# Altium schematic symbol library CHXXX.schlib: 353 symbols (part 4 of 5)
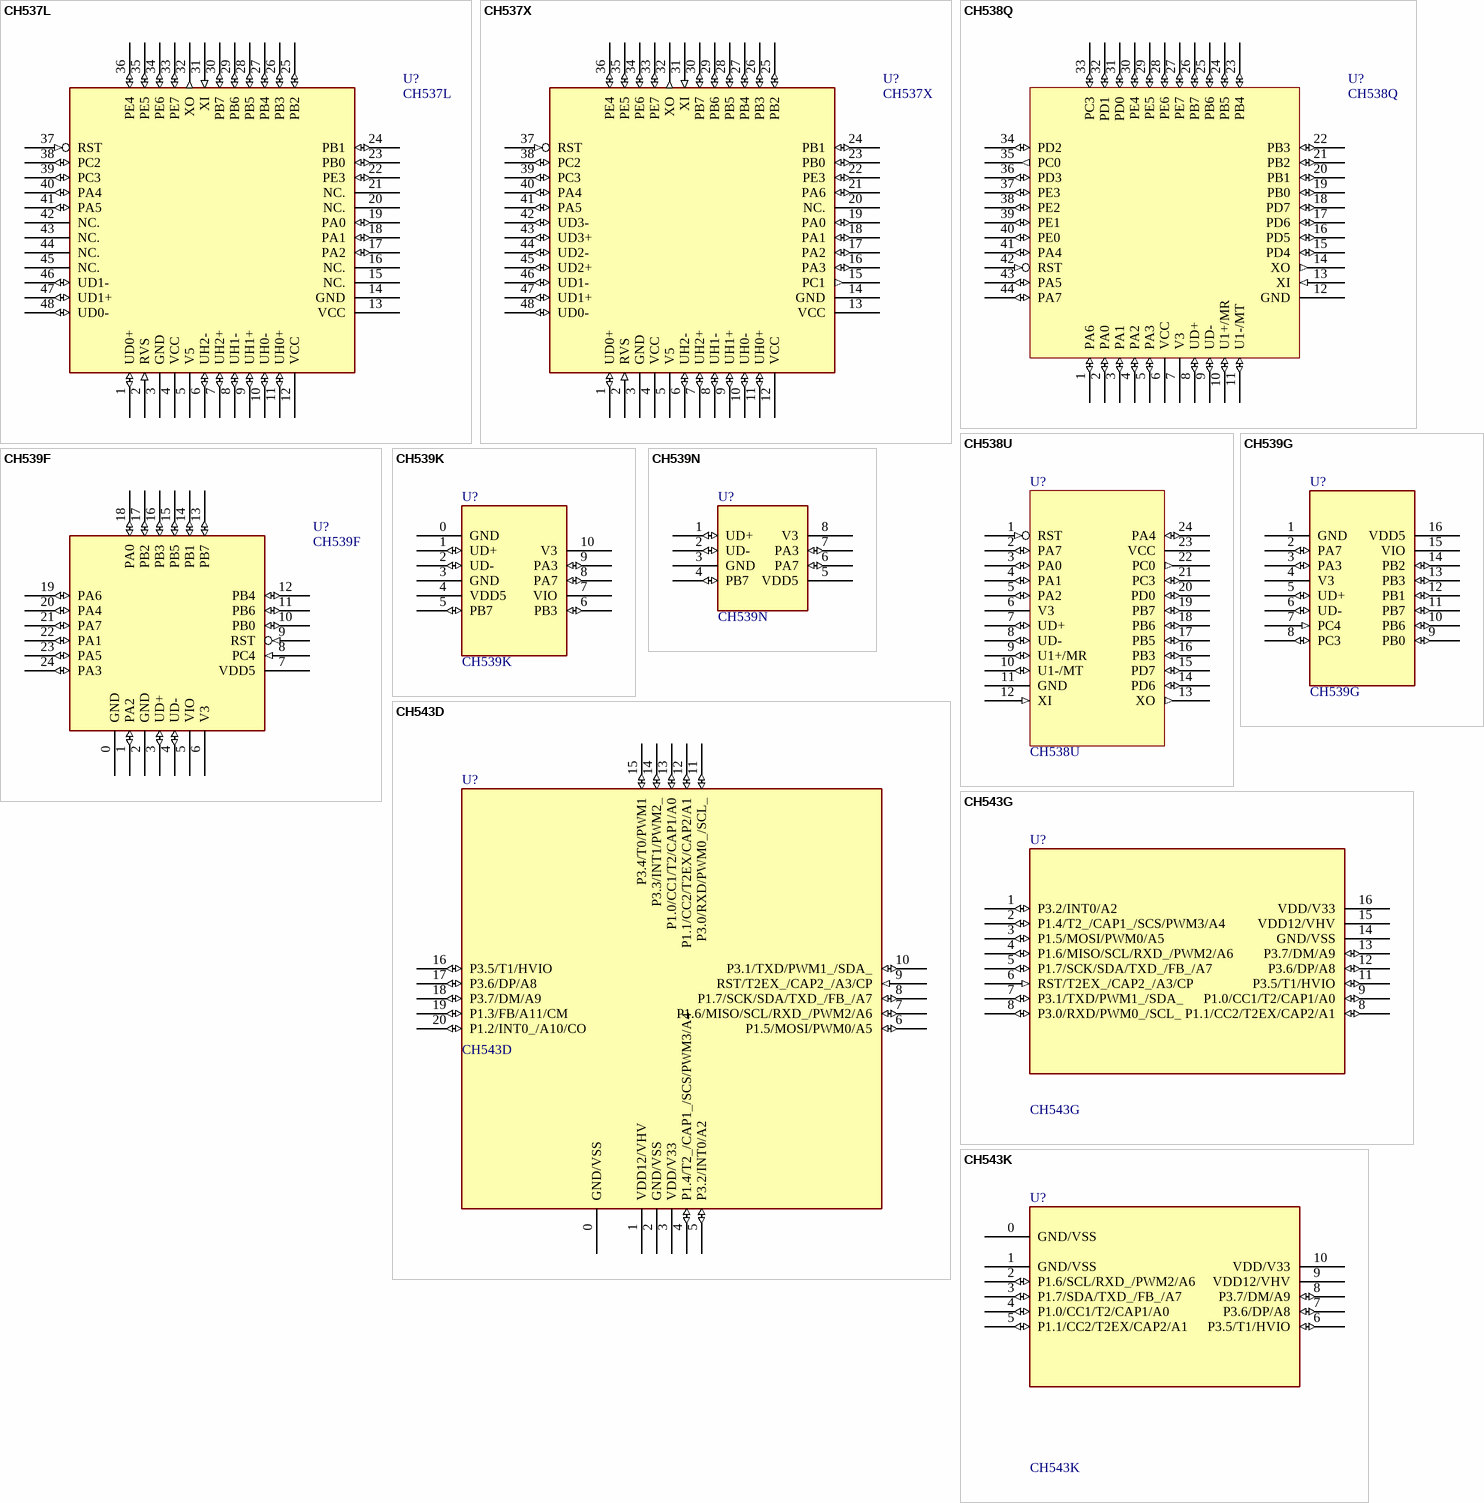
[diagram p44: symbols CH537L to CH543K]

## CH539N
designator U?
8 bit RISC MCU with USB host & device & UART
footprint SOP8
footprint DIP8
pins: 1 UD+ (io), 2 UD- (io), 3 GND (power), 4 PB7 (io), 5 VDD5 (power), 6 PA7 (io), 7 PA3 (io), 8 V3 (power)
2 alternate drawings of the same symbol

## CH543D
designator U?
8bit MCS51 MCU with USB & USB PD & type-C & ADC & UART & SPI & I2C & PWM
footprint QFN20_3x3
pins: 0 GND/VSS (power), 1 VDD12/VHV (power), 2 GND/VSS (power), 3 VDD/V33 (power), 4 P1.4/T2_/CAP1_/SCS/PWM3/A4 (io), 5 P3.2/INT0/A2 (io), 6 P1.5/MOSI/PWM0/A5 (io), 7 P1.6/MISO/SCL/RXD_/PWM2/A6 (io), 8 P1.7/SCK/SDA/TXD_/FB_/A7 (io), 9 RST/T2EX_/CAP2_/A3/CP (in), 10 P3.1/TXD/PWM1_/SDA_ (io), 11 P3.0/RXD/PWM0_/SCL_ (io), 12 P1.1/CC2/T2EX/CAP2/A1 (io), 13 P1.0/CC1/T2/CAP1/A0 (io), 14 P3.3/INT1/PWM2_ (io), 15 P3.4/T0/PWM1 (io), 16 P3.5/T1/HVIO (io), 17 P3.6/DP/A8 (io), 18 P3.7/DM/A9 (io), 19 P1.3/FB/A11/CM (io), 20 P1.2/INT0_/A10/CO (io)
2 alternate drawings of the same symbol

## CH543G
designator U?
8bit MCS51 MCU with USB & USB PD & type-C & ADC & UART & SPI & I2C & PWM
footprint SOP16 (Footprint not found)
footprint DIP16 (Footprint not found)
pins: 1 P3.2/INT0/A2 (io), 2 P1.4/T2_/CAP1_/SCS/PWM3/A4 (io), 3 P1.5/MOSI/PWM0/A5 (io), 4 P1.6/MISO/SCL/RXD_/PWM2/A6 (io), 5 P1.7/SCK/SDA/TXD_/FB_/A7 (io), 6 RST/T2EX_/CAP2_/A3/CP (in), 7 P3.1/TXD/PWM1_/SDA_ (io), 8 P1.1/CC2/T2EX/CAP2/A1 (io), 8 P3.0/RXD/PWM0_/SCL_ (io), 9 P1.0/CC1/T2/CAP1/A0 (io), 11 P3.5/T1/HVIO (io), 12 P3.6/DP/A8 (io), 13 P3.7/DM/A9 (io), 14 GND/VSS (power), 15 VDD12/VHV (power), 16 VDD/V33 (power)
2 alternate drawings of the same symbol

## CH543K
designator U?
8bit MCS51 MCU with USB & USB PD & type-C & ADC & UART & PWM
footprint ESSOP10 (Footprint not found)
pins: 0 GND/VSS (power), 1 GND/VSS (power), 2 P1.6/SCL/RXD_/PWM2/A6 (io), 3 P1.7/SDA/TXD_/FB_/A7 (io), 4 P1.0/CC1/T2/CAP1/A0 (io), 5 P1.1/CC2/T2EX/CAP2/A1 (io), 6 P3.5/T1/HVIO (io), 7 P3.6/DP/A8 (io), 8 P3.7/DM/A9 (io), 9 VDD12/VHV (power), 10 VDD/V33 (power)
2 alternate drawings of the same symbol

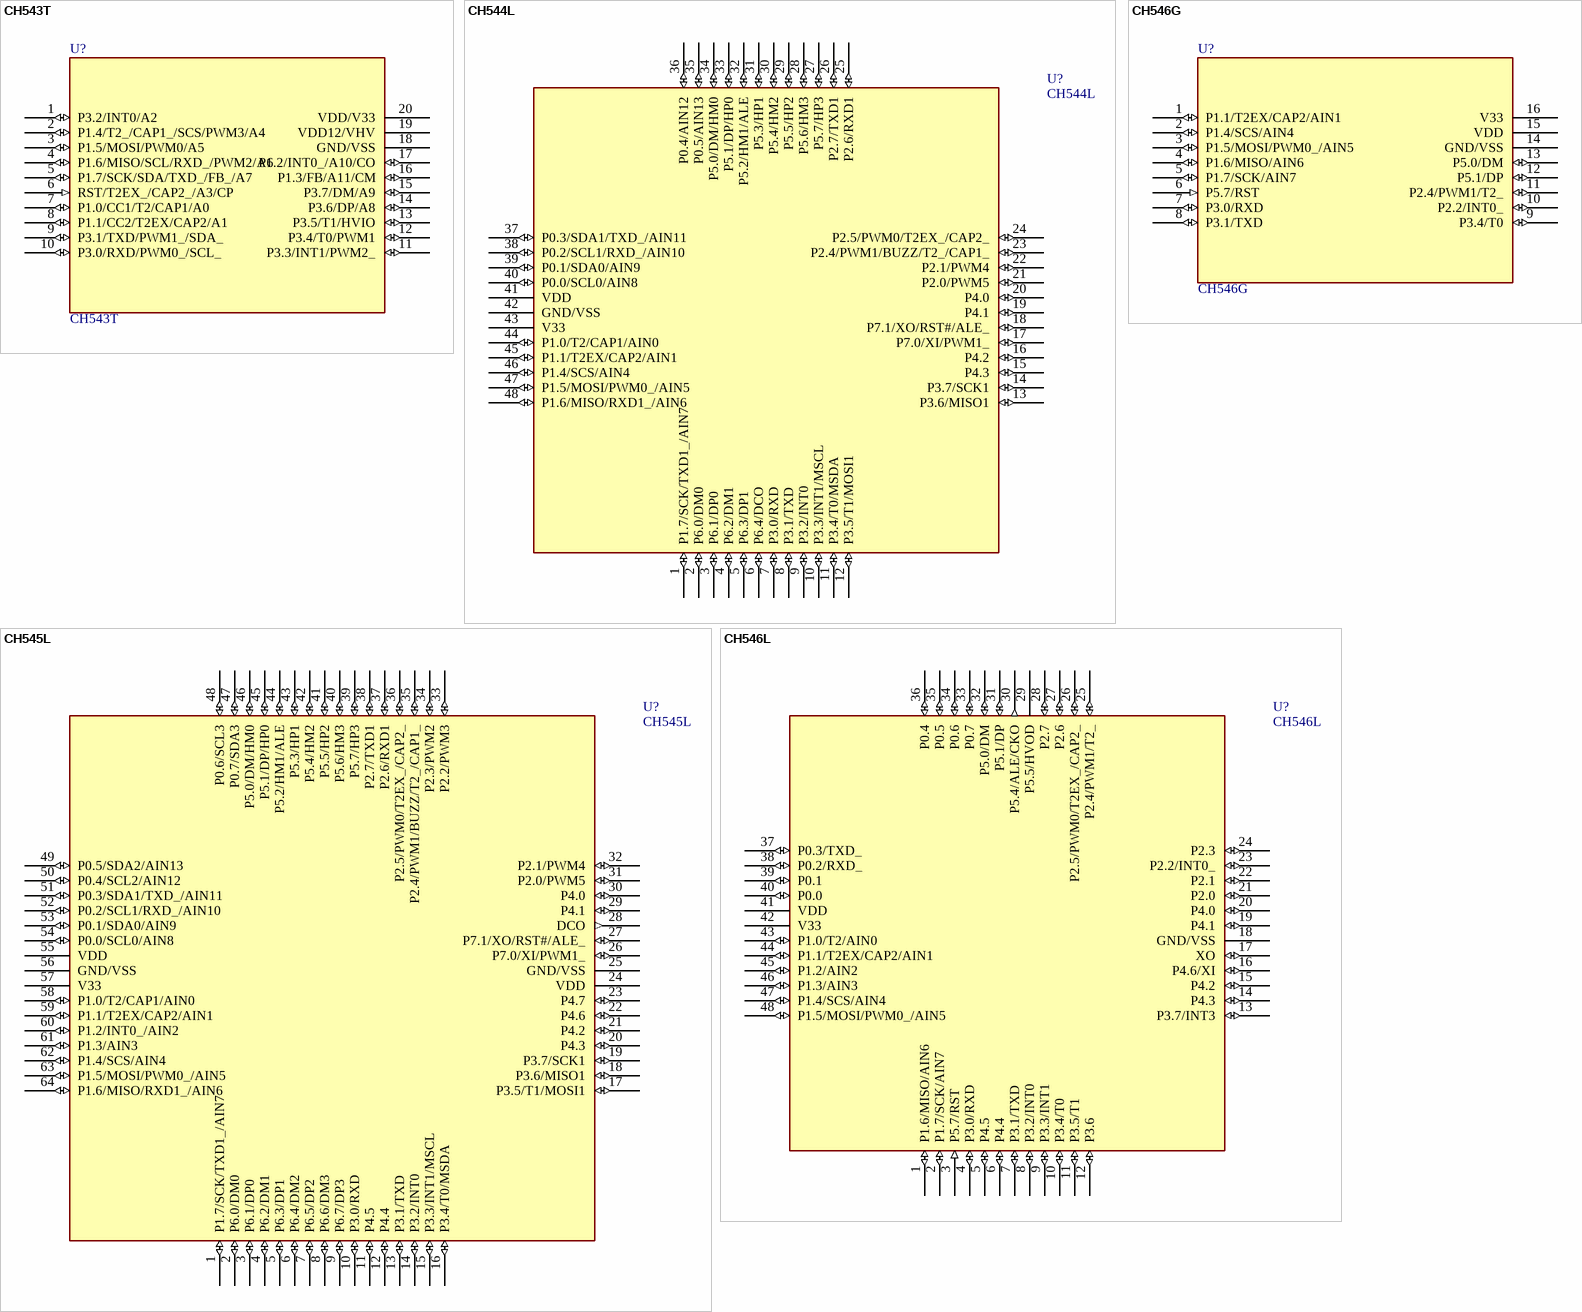
[diagram p25: symbols CH543T to CH546L]

## CH543T
designator U?
8bit MCS51 MCU with USB & USB PD & type-C & ADC & UART & SPI & I2C & PWM
footprint TSSOP20
footprint DIP20
pins: 1 P3.2/INT0/A2 (io), 2 P1.4/T2_/CAP1_/SCS/PWM3/A4 (io), 3 P1.5/MOSI/PWM0/A5 (io), 4 P1.6/MISO/SCL/RXD_/PWM2/A6 (io), 5 P1.7/SCK/SDA/TXD_/FB_/A7 (io), 6 RST/T2EX_/CAP2_/A3/CP (in), 7 P1.0/CC1/T2/CAP1/A0 (io), 8 P1.1/CC2/T2EX/CAP2/A1 (io), 9 P3.1/TXD/PWM1_/SDA_ (io), 10 P3.0/RXD/PWM0_/SCL_ (io), 11 P3.3/INT1/PWM2_ (io), 12 P3.4/T0/PWM1 (io), 13 P3.5/T1/HVIO (io), 14 P3.6/DP/A8 (io), 15 P3.7/DM/A9 (io), 16 P1.3/FB/A11/CM (io), 17 P1.2/INT0_/A10/CO (io), 18 GND/VSS (power), 19 VDD12/VHV (power), 20 VDD/V33 (power)
2 alternate drawings of the same symbol

## CH544L
designator U?
8bit MCS51 MCU with ADC & USB host 4 ports & KVM2 device & dual UART & SPI & dual I2C
footprint LQFP48
pins: 1 P1.7/SCK/TXD1_/AIN7 (io), 2 P6.0/DM0 (io), 3 P6.1/DP0 (io), 4 P6.2/DM1 (io), 5 P6.3/DP1 (io), 6 P6.4/DCO (io), 7 P3.0/RXD (io), 8 P3.1/TXD (io), 9 P3.2/INT0 (io), 10 P3.3/INT1/MSCL (io), 11 P3.4/T0/MSDA (io), 12 P3.5/T1/MOSI1 (io), 13 P3.6/MISO1 (io), 14 P3.7/SCK1 (io), 15 P4.3 (io), 16 P4.2 (io), 17 P7.0/XI/PWM1_ (io), 18 P7.1/XO/RST#/ALE_ (io), 19 P4.1 (io), 20 P4.0 (io), 21 P2.0/PWM5 (io), 22 P2.1/PWM4 (io), 23 P2.4/PWM1/BUZZ/T2_/CAP1_ (io), 24 P2.5/PWM0/T2EX_/CAP2_ (io), 25 P2.6/RXD1 (io), 26 P2.7/TXD1 (io), 27 P5.7/HP3 (io), 28 P5.6/HM3 (io), 29 P5.5/HP2 (io), 30 P5.4/HM2 (io), 31 P5.3/HP1 (io), 32 P5.2/HM1/ALE (io), 33 P5.1/DP/HP0 (io), 34 P5.0/DM/HM0 (io), 35 P0.5/AIN13 (io), 36 P0.4/AIN12 (io), 37 P0.3/SDA1/TXD_/AIN11 (io), 38 P0.2/SCL1/RXD_/AIN10 (io), 39 P0.1/SDA0/AIN9 (io), 40 P0.0/SCL0/AIN8 (io), 41 VDD (power), 42 GND/VSS (power), 43 V33 (power), 44 P1.0/T2/CAP1/AIN0 (io), 45 P1.1/T2EX/CAP2/AIN1 (io), 46 P1.4/SCS/AIN4 (io), 47 P1.5/MOSI/PWM0_/AIN5 (io), 48 P1.6/MISO/RXD1_/AIN6 (io)

## CH545L
designator U?
8bit MCS51 MCU with ADC & USB host 4 ports & KVM4 device & dual UART & SPI & quad I2C
footprint LQFP64
pins: 1 P1.7/SCK/TXD1_/AIN7 (io), 2 P6.0/DM0 (io), 3 P6.1/DP0 (io), 4 P6.2/DM1 (io), 5 P6.3/DP1 (io), 6 P6.4/DM2 (io), 7 P6.5/DP2 (io), 8 P6.6/DM3 (io), 9 P6.7/DP3 (io), 10 P3.0/RXD (io), 11 P4.5 (io), 12 P4.4 (io), 13 P3.1/TXD (io), 14 P3.2/INT0 (io), 15 P3.3/INT1/MSCL (io), 16 P3.4/T0/MSDA (io), 17 P3.5/T1/MOSI1 (io), 18 P3.6/MISO1 (io), 19 P3.7/SCK1 (io), 20 P4.3 (io), 21 P4.2 (io), 22 P4.6 (io), 23 P4.7 (io), 24 VDD (power), 25 GND/VSS (power), 26 P7.0/XI/PWM1_ (io), 27 P7.1/XO/RST#/ALE_ (io), 28 DCO (out), 29 P4.1 (io), 30 P4.0 (io), 31 P2.0/PWM5 (io), 32 P2.1/PWM4 (io), 33 P2.2/PWM3 (io), 34 P2.3/PWM2 (io), 35 P2.4/PWM1/BUZZ/T2_/CAP1_ (io), 36 P2.5/PWM0/T2EX_/CAP2_ (io), 37 P2.6/RXD1 (io), 38 P2.7/TXD1 (io), 39 P5.7/HP3 (io), 40 P5.6/HM3 (io), 41 P5.5/HP2 (io), 42 P5.4/HM2 (io), 43 P5.3/HP1 (io), 44 P5.2/HM1/ALE (io), 45 P5.1/DP/HP0 (io), 46 P5.0/DM/HM0 (io), 47 P0.7/SDA3 (io), 48 P0.6/SCL3 (io), 49 P0.5/SDA2/AIN13 (io), 50 P0.4/SCL2/AIN12 (io), 51 P0.3/SDA1/TXD_/AIN11 (io), 52 P0.2/SCL1/RXD_/AIN10 (io), 53 P0.1/SDA0/AIN9 (io), 54 P0.0/SCL0/AIN8 (io), 55 VDD (power), 56 GND/VSS (power), 57 V33 (power), 58 P1.0/T2/CAP1/AIN0 (io), 59 P1.1/T2EX/CAP2/AIN1 (io), 60 P1.2/INT0_/AIN2 (io), 61 P1.3/AIN3 (io), 62 P1.4/SCS/AIN4 (io), 63 P1.5/MOSI/PWM0_/AIN5 (io), 64 P1.6/MISO/RXD1_/AIN6 (io)

## CH546G
designator U?
8bit MCS51 MCU with ADC & USB device & UART & SPI
footprint SOP16
footprint DIP16
pins: 1 P1.1/T2EX/CAP2/AIN1 (io), 2 P1.4/SCS/AIN4 (io), 3 P1.5/MOSI/PWM0_/AIN5 (io), 4 P1.6/MISO/AIN6 (io), 5 P1.7/SCK/AIN7 (io), 6 P5.7/RST (in), 7 P3.0/RXD (io), 8 P3.1/TXD (io), 9 P3.4/T0 (io), 10 P2.2/INT0_ (io), 11 P2.4/PWM1/T2_ (io), 12 P5.1/DP (io), 13 P5.0/DM (io), 14 GND/VSS (power), 15 VDD (power), 16 V33 (power)

## CH546L
designator U?
8bit MCS51 MCU with ADC & USB device & UART & SPI
footprint LQFP48
pins: 1 P1.6/MISO/AIN6 (io), 2 P1.7/SCK/AIN7 (io), 3 P5.7/RST (in), 4 P3.0/RXD (io), 5 P4.5 (io), 6 P4.4 (io), 7 P3.1/TXD (io), 8 P3.2/INT0 (io), 9 P3.3/INT1 (io), 10 P3.4/T0 (io), 11 P3.5/T1 (io), 12 P3.6 (io), 13 P3.7/INT3 (io), 14 P4.3 (io), 15 P4.2 (io), 16 P4.6/XI (io), 17 XO (io), 18 GND/VSS (power), 19 P4.1 (io), 20 P4.0 (io), 21 P2.0 (io), 22 P2.1 (io), 23 P2.2/INT0_ (io), 24 P2.3 (io), 25 P2.4/PWM1/T2_ (io), 26 P2.5/PWM0/T2EX_/CAP2_ (io), 27 P2.6 (io), 28 P2.7 (io), 29 P5.5/HVOD (oc), 30 P5.4/ALE/CKO (out), 31 P5.1/DP (io), 32 P5.0/DM (io), 33 P0.7 (io), 34 P0.6 (io), 35 P0.5 (io), 36 P0.4 (io), 37 P0.3/TXD_ (io), 38 P0.2/RXD_ (io), 39 P0.1 (io), 40 P0.0 (io), 41 VDD (power), 42 V33 (power), 43 P1.0/T2/AIN0 (io), 44 P1.1/T2EX/CAP2/AIN1 (io), 45 P1.2/AIN2 (io), 46 P1.3/AIN3 (io), 47 P1.4/SCS/AIN4 (io), 48 P1.5/MOSI/PWM0_/AIN5 (io)

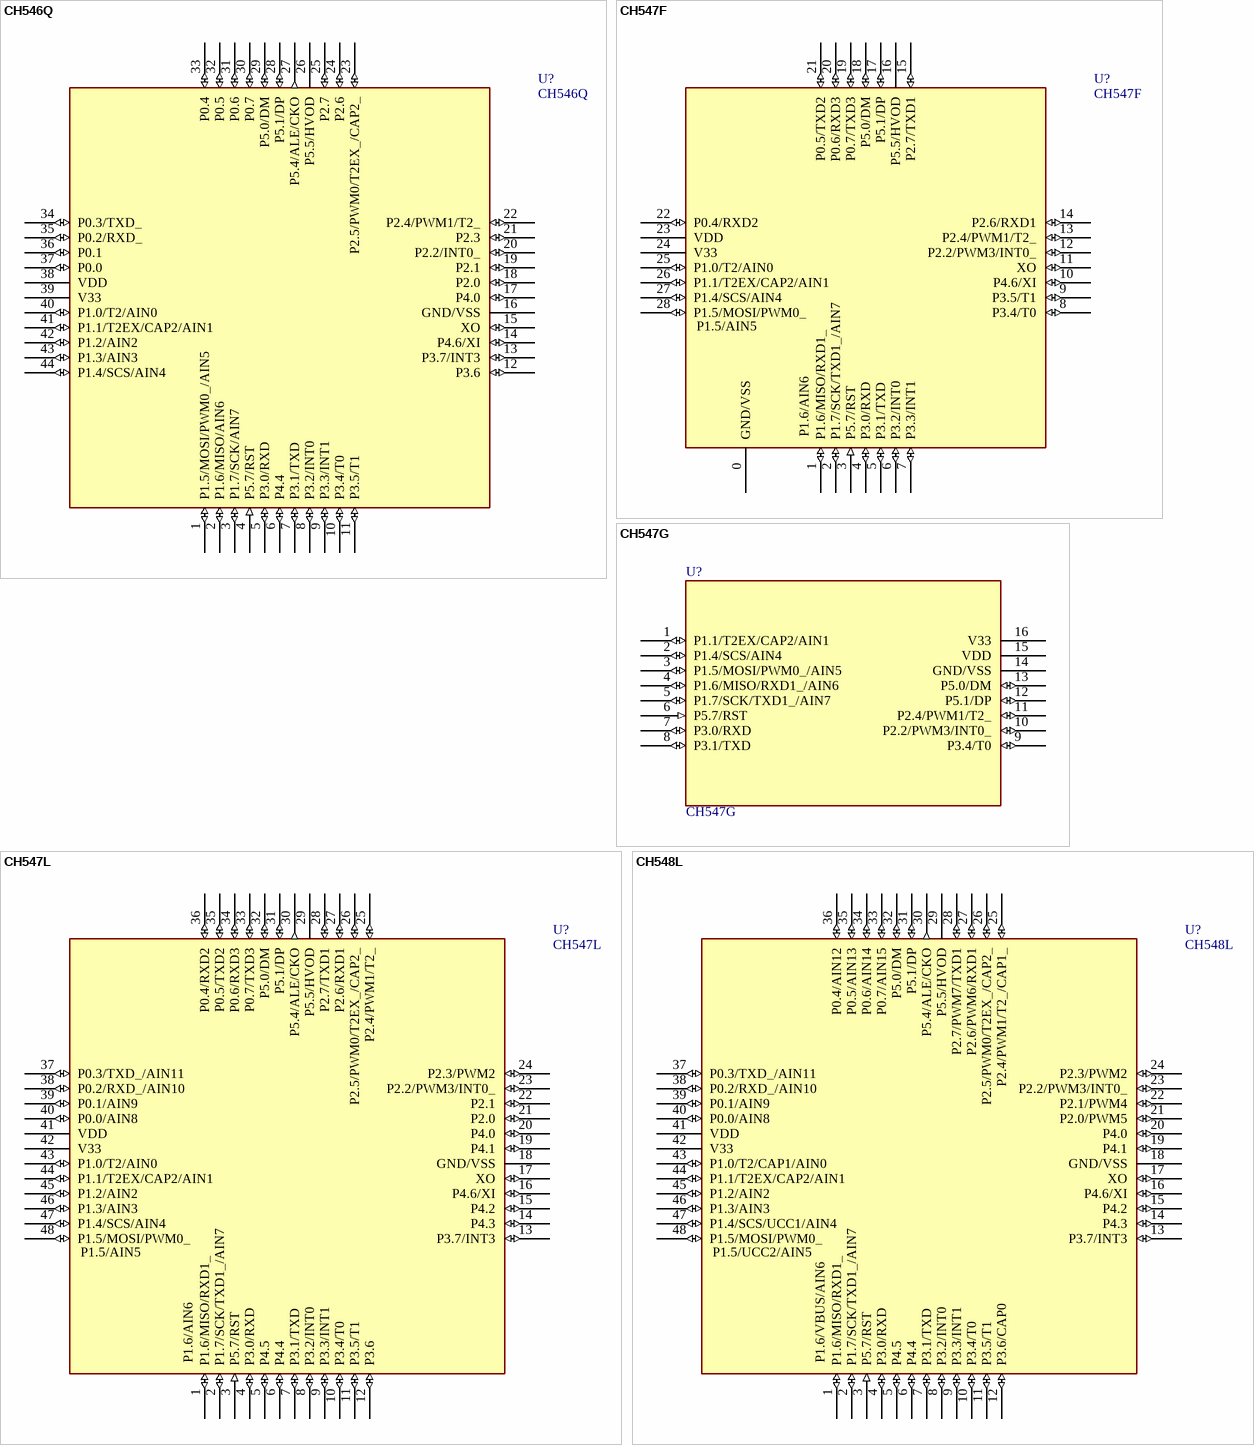
[diagram p26: symbols CH546Q to CH548L]

## CH546Q
designator U?
8bit MCS51 MCU with ADC & USB device & UART & SPI
footprint LQFP44
pins: 1 P1.5/MOSI/PWM0_/AIN5 (io), 2 P1.6/MISO/AIN6 (io), 3 P1.7/SCK/AIN7 (io), 4 P5.7/RST (in), 5 P3.0/RXD (io), 6 P4.4 (io), 7 P3.1/TXD (io), 8 P3.2/INT0 (io), 9 P3.3/INT1 (io), 10 P3.4/T0 (io), 11 P3.5/T1 (io), 12 P3.6 (io), 13 P3.7/INT3 (io), 14 P4.6/XI (io), 15 XO (io), 16 GND/VSS (power), 17 P4.0 (io), 18 P2.0 (io), 19 P2.1 (io), 20 P2.2/INT0_ (io), 21 P2.3 (io), 22 P2.4/PWM1/T2_ (io), 23 P2.5/PWM0/T2EX_/CAP2_ (io), 24 P2.6 (io), 25 P2.7 (io), 26 P5.5/HVOD (oc), 27 P5.4/ALE/CKO (out), 28 P5.1/DP (io), 29 P5.0/DM (io), 30 P0.7 (io), 31 P0.6 (io), 32 P0.5 (io), 33 P0.4 (io), 34 P0.3/TXD_ (io), 35 P0.2/RXD_ (io), 36 P0.1 (io), 37 P0.0 (io), 38 VDD (power), 39 V33 (power), 40 P1.0/T2/AIN0 (io), 41 P1.1/T2EX/CAP2/AIN1 (io), 42 P1.2/AIN2 (io), 43 P1.3/AIN3 (io), 44 P1.4/SCS/AIN4 (io)

## CH547F
designator U?
8bit MCS51 MCU with ADC & USB device & quad UART & SPI
footprint QFN28_4X4
pins: 0 GND/VSS (power), 1 P1.6/MISO/RXD1_ (io), 2 P1.7/SCK/TXD1_/AIN7 (io), 3 P5.7/RST (in), 4 P3.0/RXD (io), 5 P3.1/TXD (io), 6 P3.2/INT0 (io), 7 P3.3/INT1 (io), 8 P3.4/T0 (io), 9 P3.5/T1 (io), 10 P4.6/XI (io), 11 XO (io), 12 P2.2/PWM3/INT0_ (io), 13 P2.4/PWM1/T2_ (io), 14 P2.6/RXD1 (io), 15 P2.7/TXD1 (io), 16 P5.5/HVOD (oc), 17 P5.1/DP (io), 18 P5.0/DM (io), 19 P0.7/TXD3 (io), 20 P0.6/RXD3 (io), 21 P0.5/TXD2 (io), 22 P0.4/RXD2 (io), 23 VDD (power), 24 V33 (power), 25 P1.0/T2/AIN0 (io), 26 P1.1/T2EX/CAP2/AIN1 (io), 27 P1.4/SCS/AIN4 (io), 28 P1.5/MOSI/PWM0_ (io)
text: P1.5/AIN5; P1.6/AIN6

## CH547G
designator U?
8bit MCS51 MCU with ADC & USB device & dual UART & SPI
footprint SOP16
footprint DIP16
pins: 1 P1.1/T2EX/CAP2/AIN1 (io), 2 P1.4/SCS/AIN4 (io), 3 P1.5/MOSI/PWM0_/AIN5 (io), 4 P1.6/MISO/RXD1_/AIN6 (io), 5 P1.7/SCK/TXD1_/AIN7 (io), 6 P5.7/RST (in), 7 P3.0/RXD (io), 8 P3.1/TXD (io), 9 P3.4/T0 (io), 10 P2.2/PWM3/INT0_ (io), 11 P2.4/PWM1/T2_ (io), 12 P5.1/DP (io), 13 P5.0/DM (io), 14 GND/VSS (power), 15 VDD (power), 16 V33 (power)

## CH547L
designator U?
8bit MCS51 MCU with ADC & USB device & quad UART & SPI
footprint LQFP48
pins: 1 P1.6/MISO/RXD1_ (io), 2 P1.7/SCK/TXD1_/AIN7 (io), 3 P5.7/RST (in), 4 P3.0/RXD (io), 5 P4.5 (io), 6 P4.4 (io), 7 P3.1/TXD (io), 8 P3.2/INT0 (io), 9 P3.3/INT1 (io), 10 P3.4/T0 (io), 11 P3.5/T1 (io), 12 P3.6 (io), 13 P3.7/INT3 (io), 14 P4.3 (io), 15 P4.2 (io), 16 P4.6/XI (io), 17 XO (io), 18 GND/VSS (power), 19 P4.1 (io), 20 P4.0 (io), 21 P2.0 (io), 22 P2.1 (io), 23 P2.2/PWM3/INT0_ (io), 24 P2.3/PWM2 (io), 25 P2.4/PWM1/T2_ (io), 26 P2.5/PWM0/T2EX_/CAP2_ (io), 27 P2.6/RXD1 (io), 28 P2.7/TXD1 (io), 29 P5.5/HVOD (oc), 30 P5.4/ALE/CKO (out), 31 P5.1/DP (io), 32 P5.0/DM (io), 33 P0.7/TXD3 (io), 34 P0.6/RXD3 (io), 35 P0.5/TXD2 (io), 36 P0.4/RXD2 (io), 37 P0.3/TXD_/AIN11 (io), 38 P0.2/RXD_/AIN10 (io), 39 P0.1/AIN9 (io), 40 P0.0/AIN8 (io), 41 VDD (power), 42 V33 (power), 43 P1.0/T2/AIN0 (io), 44 P1.1/T2EX/CAP2/AIN1 (io), 45 P1.2/AIN2 (io), 46 P1.3/AIN3 (io), 47 P1.4/SCS/AIN4 (io), 48 P1.5/MOSI/PWM0_ (io)
text: P1.5/AIN5; P1.6/AIN6

## CH548L
designator U?
8bit MCS51 MCU with ADC & USB type-C host & device & double UART & SPI
footprint LQFP48
pins: 1 P1.6/MISO/RXD1_ (io), 2 P1.7/SCK/TXD1_/AIN7 (io), 3 P5.7/RST (in), 4 P3.0/RXD (io), 5 P4.5 (io), 6 P4.4 (io), 7 P3.1/TXD (io), 8 P3.2/INT0 (io), 9 P3.3/INT1 (io), 10 P3.4/T0 (io), 11 P3.5/T1 (io), 12 P3.6/CAP0 (io), 13 P3.7/INT3 (io), 14 P4.3 (io), 15 P4.2 (io), 16 P4.6/XI (io), 17 XO (io), 18 GND/VSS (power), 19 P4.1 (io), 20 P4.0 (io), 21 P2.0/PWM5 (io), 22 P2.1/PWM4 (io), 23 P2.2/PWM3/INT0_ (io), 24 P2.3/PWM2 (io), 25 P2.4/PWM1/T2_/CAP1_ (io), 26 P2.5/PWM0/T2EX_/CAP2_ (io), 27 P2.6/PWM6/RXD1 (io), 28 P2.7/PWM7/TXD1 (io), 29 P5.5/HVOD (oc), 30 P5.4/ALE/CKO (out), 31 P5.1/DP (io), 32 P5.0/DM (io), 33 P0.7/AIN15 (io), 34 P0.6/AIN14 (io), 35 P0.5/AIN13 (io), 36 P0.4/AIN12 (io), 37 P0.3/TXD_/AIN11 (io), 38 P0.2/RXD_/AIN10 (io), 39 P0.1/AIN9 (io), 40 P0.0/AIN8 (io), 41 VDD (power), 42 V33 (power), 43 P1.0/T2/CAP1/AIN0 (io), 44 P1.1/T2EX/CAP2/AIN1 (io), 45 P1.2/AIN2 (io), 46 P1.3/AIN3 (io), 47 P1.4/SCS/UCC1/AIN4 (io), 48 P1.5/MOSI/PWM0_ (io)
text: P1.5/UCC2/AIN5; P1.6/VBUS/AIN6

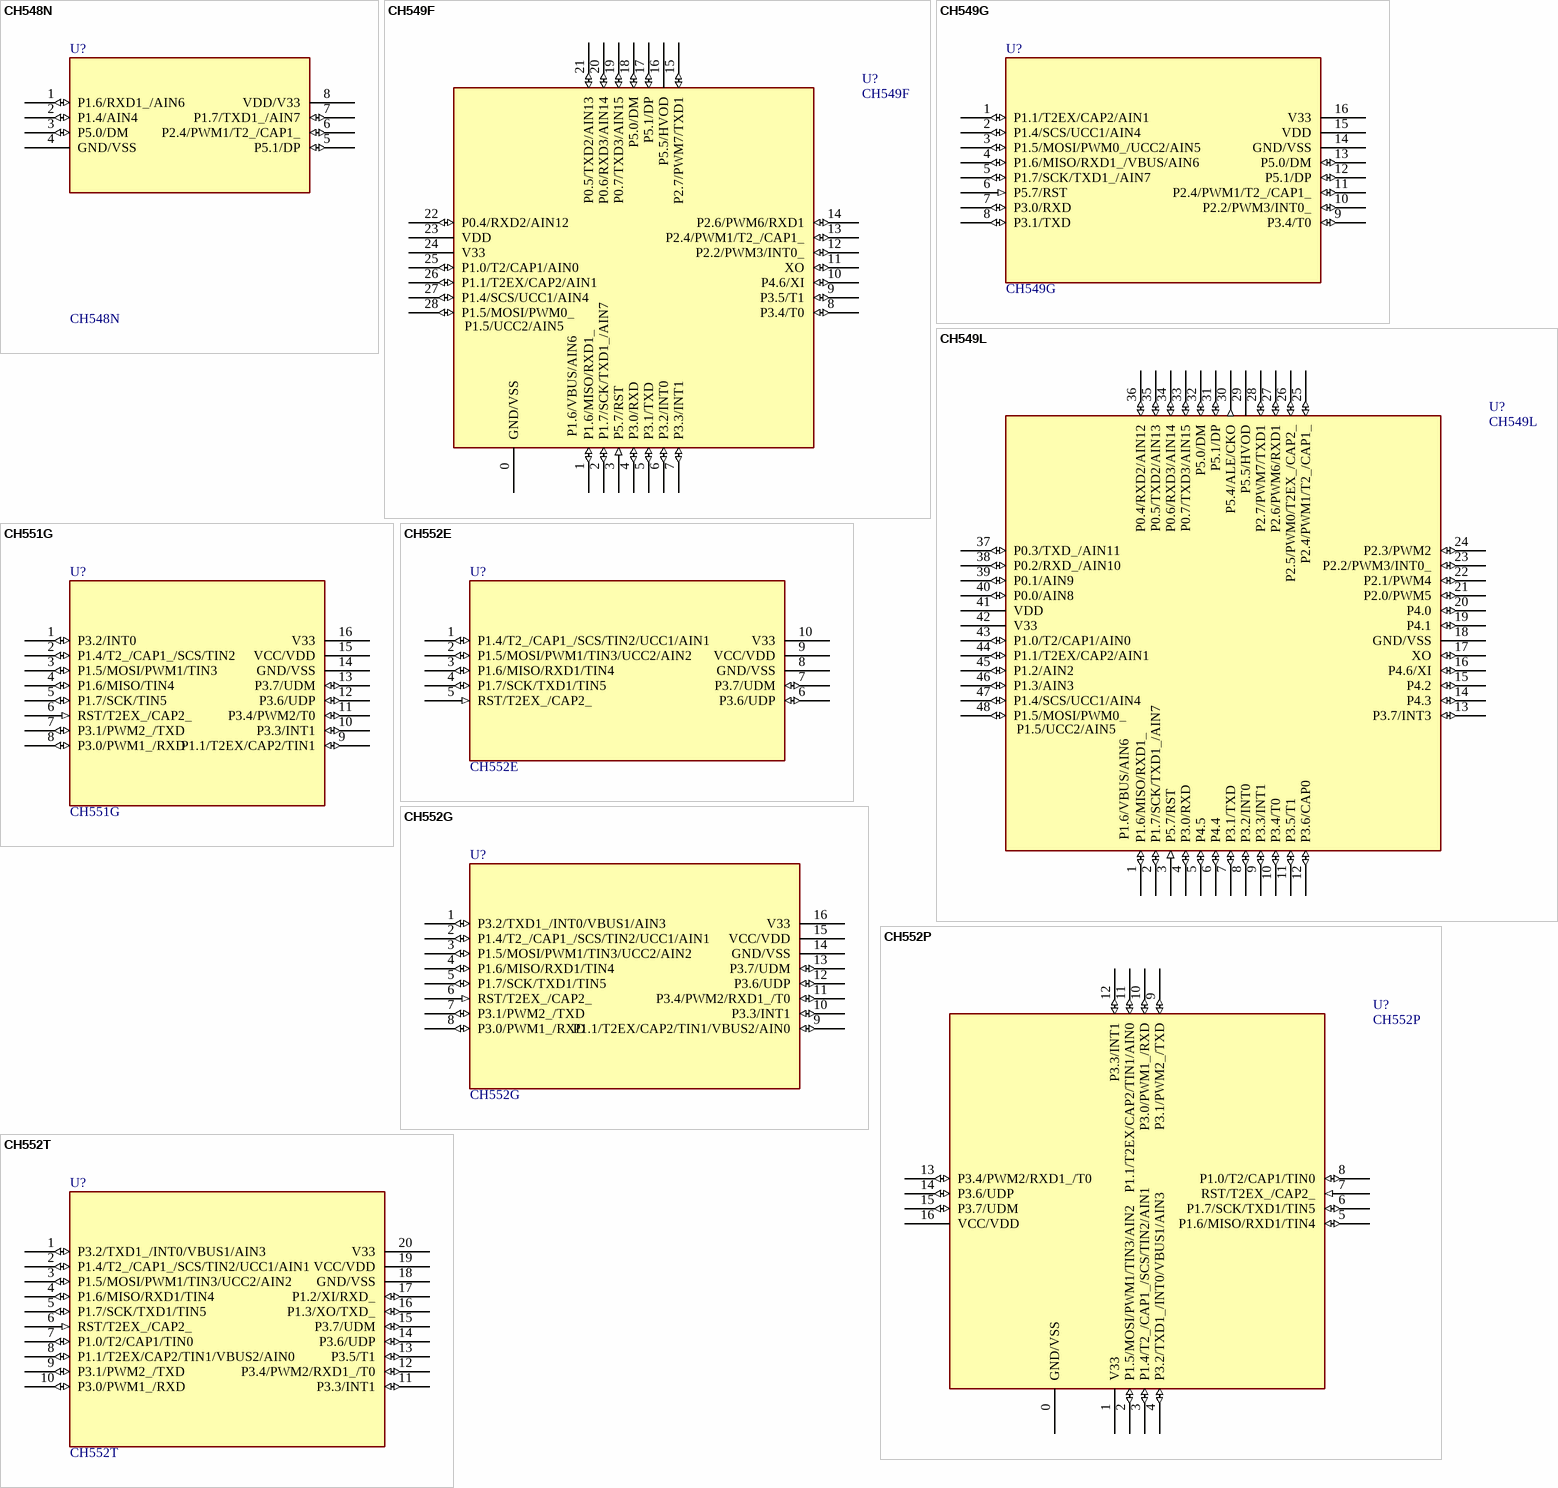
[diagram p27: symbols CH548N to CH552T]

## CH548N
designator U?
8bit MCS51 MCU with ADC & USB host & device & UART
footprint SOP8 (Footprint not found)
pins: 1 P1.6/RXD1_/AIN6 (io), 2 P1.4/AIN4 (io), 3 P5.0/DM (io), 4 GND/VSS (power), 5 P5.1/DP (io), 6 P2.4/PWM1/T2_/CAP1_ (io), 7 P1.7/TXD1_/AIN7 (io), 8 VDD/V33 (power)
2 alternate drawings of the same symbol

## CH549F
designator U?
8bit MCS51 MCU with ADC & USB type-C host & device & quad UART & SPI
footprint QFN28_4X4
pins: 0 GND/VSS (power), 1 P1.6/MISO/RXD1_ (io), 2 P1.7/SCK/TXD1_/AIN7 (io), 3 P5.7/RST (in), 4 P3.0/RXD (io), 5 P3.1/TXD (io), 6 P3.2/INT0 (io), 7 P3.3/INT1 (io), 8 P3.4/T0 (io), 9 P3.5/T1 (io), 10 P4.6/XI (io), 11 XO (io), 12 P2.2/PWM3/INT0_ (io), 13 P2.4/PWM1/T2_/CAP1_ (io), 14 P2.6/PWM6/RXD1 (io), 15 P2.7/PWM7/TXD1 (io), 16 P5.5/HVOD (oc), 17 P5.1/DP (io), 18 P5.0/DM (io), 19 P0.7/TXD3/AIN15 (io), 20 P0.6/RXD3/AIN14 (io), 21 P0.5/TXD2/AIN13 (io), 22 P0.4/RXD2/AIN12 (io), 23 VDD (power), 24 V33 (power), 25 P1.0/T2/CAP1/AIN0 (io), 26 P1.1/T2EX/CAP2/AIN1 (io), 27 P1.4/SCS/UCC1/AIN4 (io), 28 P1.5/MOSI/PWM0_ (io)
text: P1.5/UCC2/AIN5; P1.6/VBUS/AIN6

## CH549G
designator U?
8bit MCS51 MCU with ADC & USB type-C host & device & dual UART & SPI
footprint SOP16
footprint DIP16
pins: 1 P1.1/T2EX/CAP2/AIN1 (io), 2 P1.4/SCS/UCC1/AIN4 (io), 3 P1.5/MOSI/PWM0_/UCC2/AIN5 (io), 4 P1.6/MISO/RXD1_/VBUS/AIN6 (io), 5 P1.7/SCK/TXD1_/AIN7 (io), 6 P5.7/RST (in), 7 P3.0/RXD (io), 8 P3.1/TXD (io), 9 P3.4/T0 (io), 10 P2.2/PWM3/INT0_ (io), 11 P2.4/PWM1/T2_/CAP1_ (io), 12 P5.1/DP (io), 13 P5.0/DM (io), 14 GND/VSS (power), 15 VDD (power), 16 V33 (power)

## CH549L
designator U?
8bit MCS51 MCU with ADC & USB type-C host & device & quad UART & SPI
footprint LQFP48
pins: 1 P1.6/MISO/RXD1_ (io), 2 P1.7/SCK/TXD1_/AIN7 (io), 3 P5.7/RST (in), 4 P3.0/RXD (io), 5 P4.5 (io), 6 P4.4 (io), 7 P3.1/TXD (io), 8 P3.2/INT0 (io), 9 P3.3/INT1 (io), 10 P3.4/T0 (io), 11 P3.5/T1 (io), 12 P3.6/CAP0 (io), 13 P3.7/INT3 (io), 14 P4.3 (io), 15 P4.2 (io), 16 P4.6/XI (io), 17 XO (io), 18 GND/VSS (power), 19 P4.1 (io), 20 P4.0 (io), 21 P2.0/PWM5 (io), 22 P2.1/PWM4 (io), 23 P2.2/PWM3/INT0_ (io), 24 P2.3/PWM2 (io), 25 P2.4/PWM1/T2_/CAP1_ (io), 26 P2.5/PWM0/T2EX_/CAP2_ (io), 27 P2.6/PWM6/RXD1 (io), 28 P2.7/PWM7/TXD1 (io), 29 P5.5/HVOD (oc), 30 P5.4/ALE/CKO (out), 31 P5.1/DP (io), 32 P5.0/DM (io), 33 P0.7/TXD3/AIN15 (io), 34 P0.6/RXD3/AIN14 (io), 35 P0.5/TXD2/AIN13 (io), 36 P0.4/RXD2/AIN12 (io), 37 P0.3/TXD_/AIN11 (io), 38 P0.2/RXD_/AIN10 (io), 39 P0.1/AIN9 (io), 40 P0.0/AIN8 (io), 41 VDD (power), 42 V33 (power), 43 P1.0/T2/CAP1/AIN0 (io), 44 P1.1/T2EX/CAP2/AIN1 (io), 45 P1.2/AIN2 (io), 46 P1.3/AIN3 (io), 47 P1.4/SCS/UCC1/AIN4 (io), 48 P1.5/MOSI/PWM0_ (io)
text: P1.5/UCC2/AIN5; P1.6/VBUS/AIN6

## CH551G
designator U?
8bit MCS51 MCU with SPI & UART & USB device
footprint SOP16
footprint DIP16
pins: 1 P3.2/INT0 (io), 2 P1.4/T2_/CAP1_/SCS/TIN2 (io), 3 P1.5/MOSI/PWM1/TIN3 (io), 4 P1.6/MISO/TIN4 (io), 5 P1.7/SCK/TIN5 (io), 6 RST/T2EX_/CAP2_ (in), 7 P3.1/PWM2_/TXD (io), 8 P3.0/PWM1_/RXD (io), 9 P1.1/T2EX/CAP2/TIN1 (io), 10 P3.3/INT1 (io), 11 P3.4/PWM2/T0 (io), 12 P3.6/UDP (io), 13 P3.7/UDM (io), 14 GND/VSS (power), 15 VCC/VDD (power), 16 V33 (power)

## CH552E
designator U?
8bit MCS51 MCU with ADC & SPI & USB device & dual UART
footprint MSOP10
pins: 1 P1.4/T2_/CAP1_/SCS/TIN2/UCC1/AIN1 (io), 2 P1.5/MOSI/PWM1/TIN3/UCC2/AIN2 (io), 3 P1.6/MISO/RXD1/TIN4 (io), 4 P1.7/SCK/TXD1/TIN5 (io), 5 RST/T2EX_/CAP2_ (in), 6 P3.6/UDP (io), 7 P3.7/UDM (io), 8 GND/VSS (power), 9 VCC/VDD (power), 10 V33 (power)

## CH552G
designator U?
8bit MCS51 MCU with ADC & SPI & USB device & dual UART
footprint SOP16
footprint DIP16
pins: 1 P3.2/TXD1_/INT0/VBUS1/AIN3 (io), 2 P1.4/T2_/CAP1_/SCS/TIN2/UCC1/AIN1 (io), 3 P1.5/MOSI/PWM1/TIN3/UCC2/AIN2 (io), 4 P1.6/MISO/RXD1/TIN4 (io), 5 P1.7/SCK/TXD1/TIN5 (io), 6 RST/T2EX_/CAP2_ (in), 7 P3.1/PWM2_/TXD (io), 8 P3.0/PWM1_/RXD (io), 9 P1.1/T2EX/CAP2/TIN1/VBUS2/AIN0 (io), 10 P3.3/INT1 (io), 11 P3.4/PWM2/RXD1_/T0 (io), 12 P3.6/UDP (io), 13 P3.7/UDM (io), 14 GND/VSS (power), 15 VCC/VDD (power), 16 V33 (power)

## CH552P
designator U?
8bit MCS51 MCU with ADC & SPI & USB device & dual UART
footprint QFN16_3X3
pins: 0 GND/VSS (power), 1 V33 (power), 2 P1.5/MOSI/PWM1/TIN3/AIN2 (io), 3 P1.4/T2_/CAP1_/SCS/TIN2/AIN1 (io), 4 P3.2/TXD1_/INT0/VBUS1/AIN3 (io), 5 P1.6/MISO/RXD1/TIN4 (io), 6 P1.7/SCK/TXD1/TIN5 (io), 7 RST/T2EX_/CAP2_ (in), 8 P1.0/T2/CAP1/TIN0 (io), 9 P3.1/PWM2_/TXD (io), 10 P3.0/PWM1_/RXD (io), 11 P1.1/T2EX/CAP2/TIN1/AIN0 (io), 12 P3.3/INT1 (io), 13 P3.4/PWM2/RXD1_/T0 (io), 14 P3.6/UDP (io), 15 P3.7/UDM (io), 16 VCC/VDD (power)

## CH552T
designator U?
8bit MCS51 MCU with ADC & SPI & USB device & dual UART
footprint TSSOP20
footprint DIP20
pins: 1 P3.2/TXD1_/INT0/VBUS1/AIN3 (io), 2 P1.4/T2_/CAP1_/SCS/TIN2/UCC1/AIN1 (io), 3 P1.5/MOSI/PWM1/TIN3/UCC2/AIN2 (io), 4 P1.6/MISO/RXD1/TIN4 (io), 5 P1.7/SCK/TXD1/TIN5 (io), 6 RST/T2EX_/CAP2_ (in), 7 P1.0/T2/CAP1/TIN0 (io), 8 P1.1/T2EX/CAP2/TIN1/VBUS2/AIN0 (io), 9 P3.1/PWM2_/TXD (io), 10 P3.0/PWM1_/RXD (io), 11 P3.3/INT1 (io), 12 P3.4/PWM2/RXD1_/T0 (io), 13 P3.5/T1 (io), 14 P3.6/UDP (io), 15 P3.7/UDM (io), 16 P1.3/XO/TXD_ (io), 17 P1.2/XI/RXD_ (io), 18 GND/VSS (power), 19 VCC/VDD (power), 20 V33 (power)

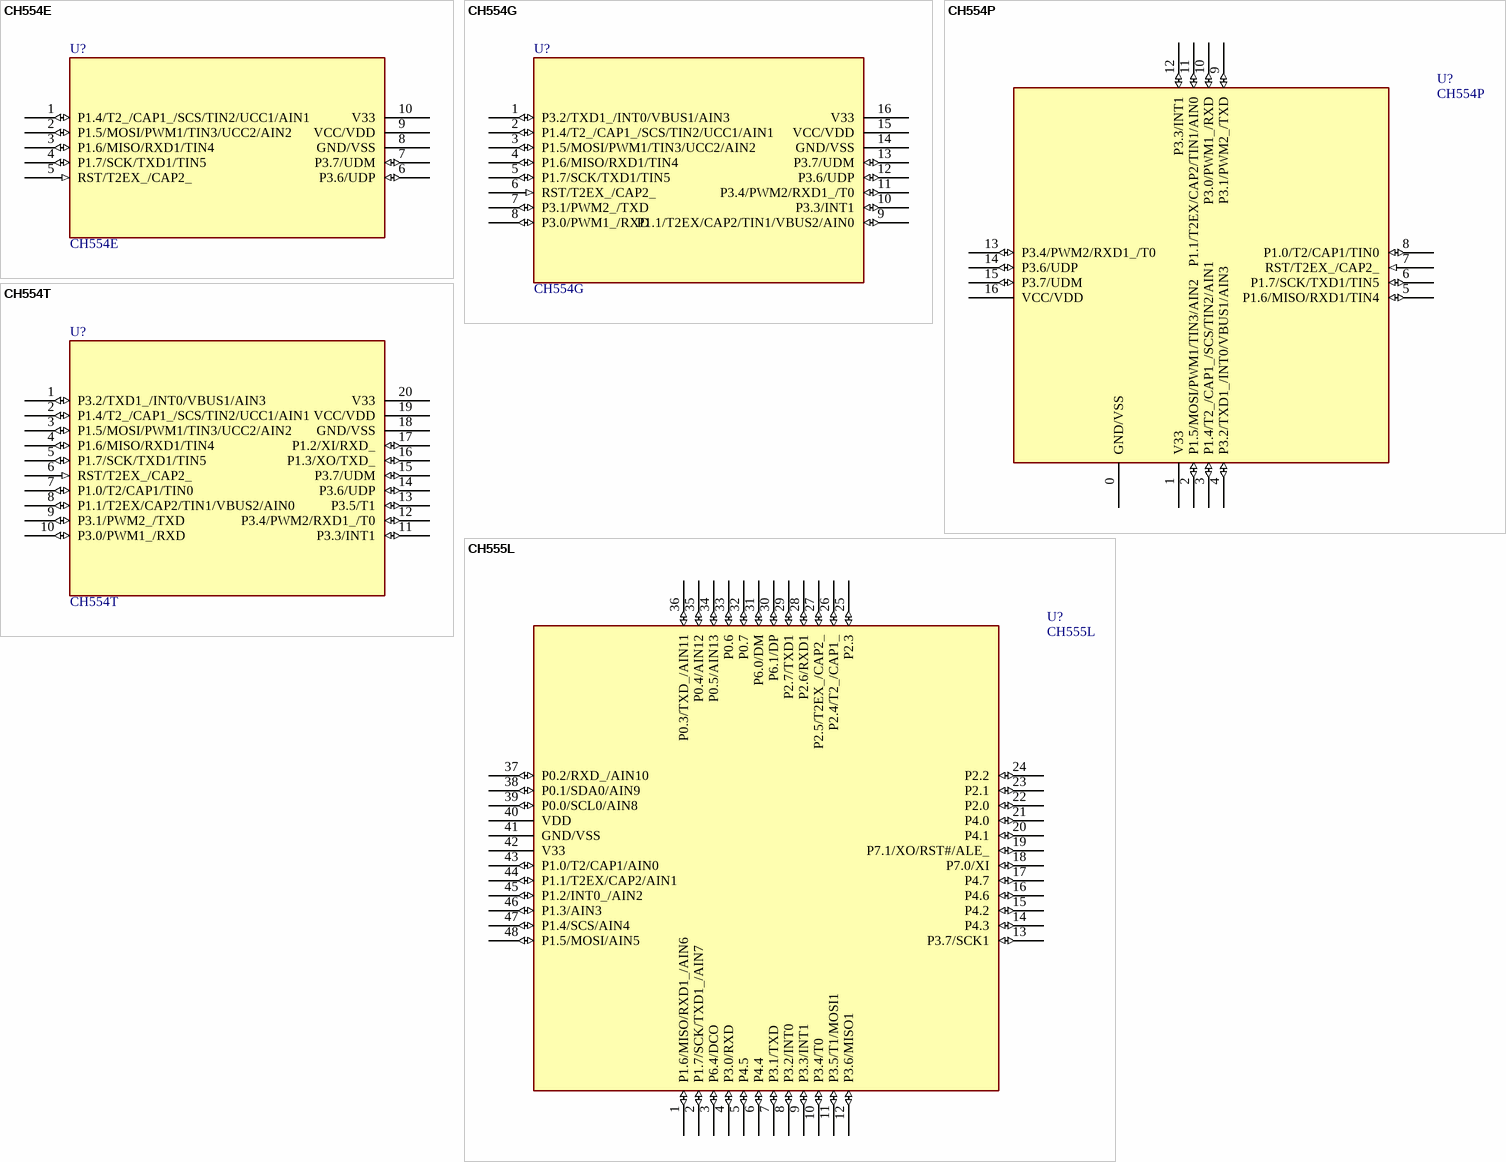
[diagram p28: symbols CH554E to CH555L]

## CH554E
designator U?
8bit MCS51 MCU with ADC & SPI & USB host & device & dual UART
footprint MSOP10
pins: 1 P1.4/T2_/CAP1_/SCS/TIN2/UCC1/AIN1 (io), 2 P1.5/MOSI/PWM1/TIN3/UCC2/AIN2 (io), 3 P1.6/MISO/RXD1/TIN4 (io), 4 P1.7/SCK/TXD1/TIN5 (io), 5 RST/T2EX_/CAP2_ (in), 6 P3.6/UDP (io), 7 P3.7/UDM (io), 8 GND/VSS (power), 9 VCC/VDD (power), 10 V33 (power)

## CH554G
designator U?
8bit MCS51 MCU with ADC & SPI & USB host & device & dual UART
footprint SOP16
footprint DIP16
pins: 1 P3.2/TXD1_/INT0/VBUS1/AIN3 (io), 2 P1.4/T2_/CAP1_/SCS/TIN2/UCC1/AIN1 (io), 3 P1.5/MOSI/PWM1/TIN3/UCC2/AIN2 (io), 4 P1.6/MISO/RXD1/TIN4 (io), 5 P1.7/SCK/TXD1/TIN5 (io), 6 RST/T2EX_/CAP2_ (in), 7 P3.1/PWM2_/TXD (io), 8 P3.0/PWM1_/RXD (io), 9 P1.1/T2EX/CAP2/TIN1/VBUS2/AIN0 (io), 10 P3.3/INT1 (io), 11 P3.4/PWM2/RXD1_/T0 (io), 12 P3.6/UDP (io), 13 P3.7/UDM (io), 14 GND/VSS (power), 15 VCC/VDD (power), 16 V33 (power)

## CH554P
designator U?
8bit MCS51 MCU with ADC & SPI & USB host & device & dual UART
footprint QFN16_3X3
pins: 0 GND/VSS (power), 1 V33 (power), 2 P1.5/MOSI/PWM1/TIN3/AIN2 (io), 3 P1.4/T2_/CAP1_/SCS/TIN2/AIN1 (io), 4 P3.2/TXD1_/INT0/VBUS1/AIN3 (io), 5 P1.6/MISO/RXD1/TIN4 (io), 6 P1.7/SCK/TXD1/TIN5 (io), 7 RST/T2EX_/CAP2_ (in), 8 P1.0/T2/CAP1/TIN0 (io), 9 P3.1/PWM2_/TXD (io), 10 P3.0/PWM1_/RXD (io), 11 P1.1/T2EX/CAP2/TIN1/AIN0 (io), 12 P3.3/INT1 (io), 13 P3.4/PWM2/RXD1_/T0 (io), 14 P3.6/UDP (io), 15 P3.7/UDM (io), 16 VCC/VDD (power)

## CH554T
designator U?
8bit MCS51 MCU with ADC & SPI & USB host & device & dual UART
footprint TSSOP20
footprint DIP20
pins: 1 P3.2/TXD1_/INT0/VBUS1/AIN3 (io), 2 P1.4/T2_/CAP1_/SCS/TIN2/UCC1/AIN1 (io), 3 P1.5/MOSI/PWM1/TIN3/UCC2/AIN2 (io), 4 P1.6/MISO/RXD1/TIN4 (io), 5 P1.7/SCK/TXD1/TIN5 (io), 6 RST/T2EX_/CAP2_ (in), 7 P1.0/T2/CAP1/TIN0 (io), 8 P1.1/T2EX/CAP2/TIN1/VBUS2/AIN0 (io), 9 P3.1/PWM2_/TXD (io), 10 P3.0/PWM1_/RXD (io), 11 P3.3/INT1 (io), 12 P3.4/PWM2/RXD1_/T0 (io), 13 P3.5/T1 (io), 14 P3.6/UDP (io), 15 P3.7/UDM (io), 16 P1.3/XO/TXD_ (io), 17 P1.2/XI/RXD_ (io), 18 GND/VSS (power), 19 VCC/VDD (power), 20 V33 (power)

## CH555L
designator U?
8bit MCS51 MCU with ADC & USB device & RGB PWM & UART & SPI & I2C
footprint LQFP48
pins: 1 P1.6/MISO/RXD1_/AIN6 (io), 2 P1.7/SCK/TXD1_/AIN7 (io), 3 P6.4/DCO (io), 4 P3.0/RXD (io), 5 P4.5 (io), 6 P4.4 (io), 7 P3.1/TXD (io), 8 P3.2/INT0 (io), 9 P3.3/INT1 (io), 10 P3.4/T0 (io), 11 P3.5/T1/MOSI1 (io), 12 P3.6/MISO1 (io), 13 P3.7/SCK1 (io), 14 P4.3 (io), 15 P4.2 (io), 16 P4.6 (io), 17 P4.7 (io), 18 P7.0/XI (io), 19 P7.1/XO/RST#/ALE_ (io), 20 P4.1 (io), 21 P4.0 (io), 22 P2.0 (io), 23 P2.1 (io), 24 P2.2 (io), 25 P2.3 (io), 26 P2.4/T2_/CAP1_ (io), 27 P2.5/T2EX_/CAP2_ (io), 28 P2.6/RXD1 (io), 29 P2.7/TXD1 (io), 30 P6.1/DP (io), 31 P6.0/DM (io), 32 P0.7 (io), 33 P0.6 (io), 34 P0.5/AIN13 (io), 35 P0.4/AIN12 (io), 36 P0.3/TXD_/AIN11 (io), 37 P0.2/RXD_/AIN10 (io), 38 P0.1/SDA0/AIN9 (io), 39 P0.0/SCL0/AIN8 (io), 40 VDD (power), 41 GND/VSS (power), 42 V33 (power), 43 P1.0/T2/CAP1/AIN0 (io), 44 P1.1/T2EX/CAP2/AIN1 (io), 45 P1.2/INT0_/AIN2 (io), 46 P1.3/AIN3 (io), 47 P1.4/SCS/AIN4 (io), 48 P1.5/MOSI/AIN5 (io)

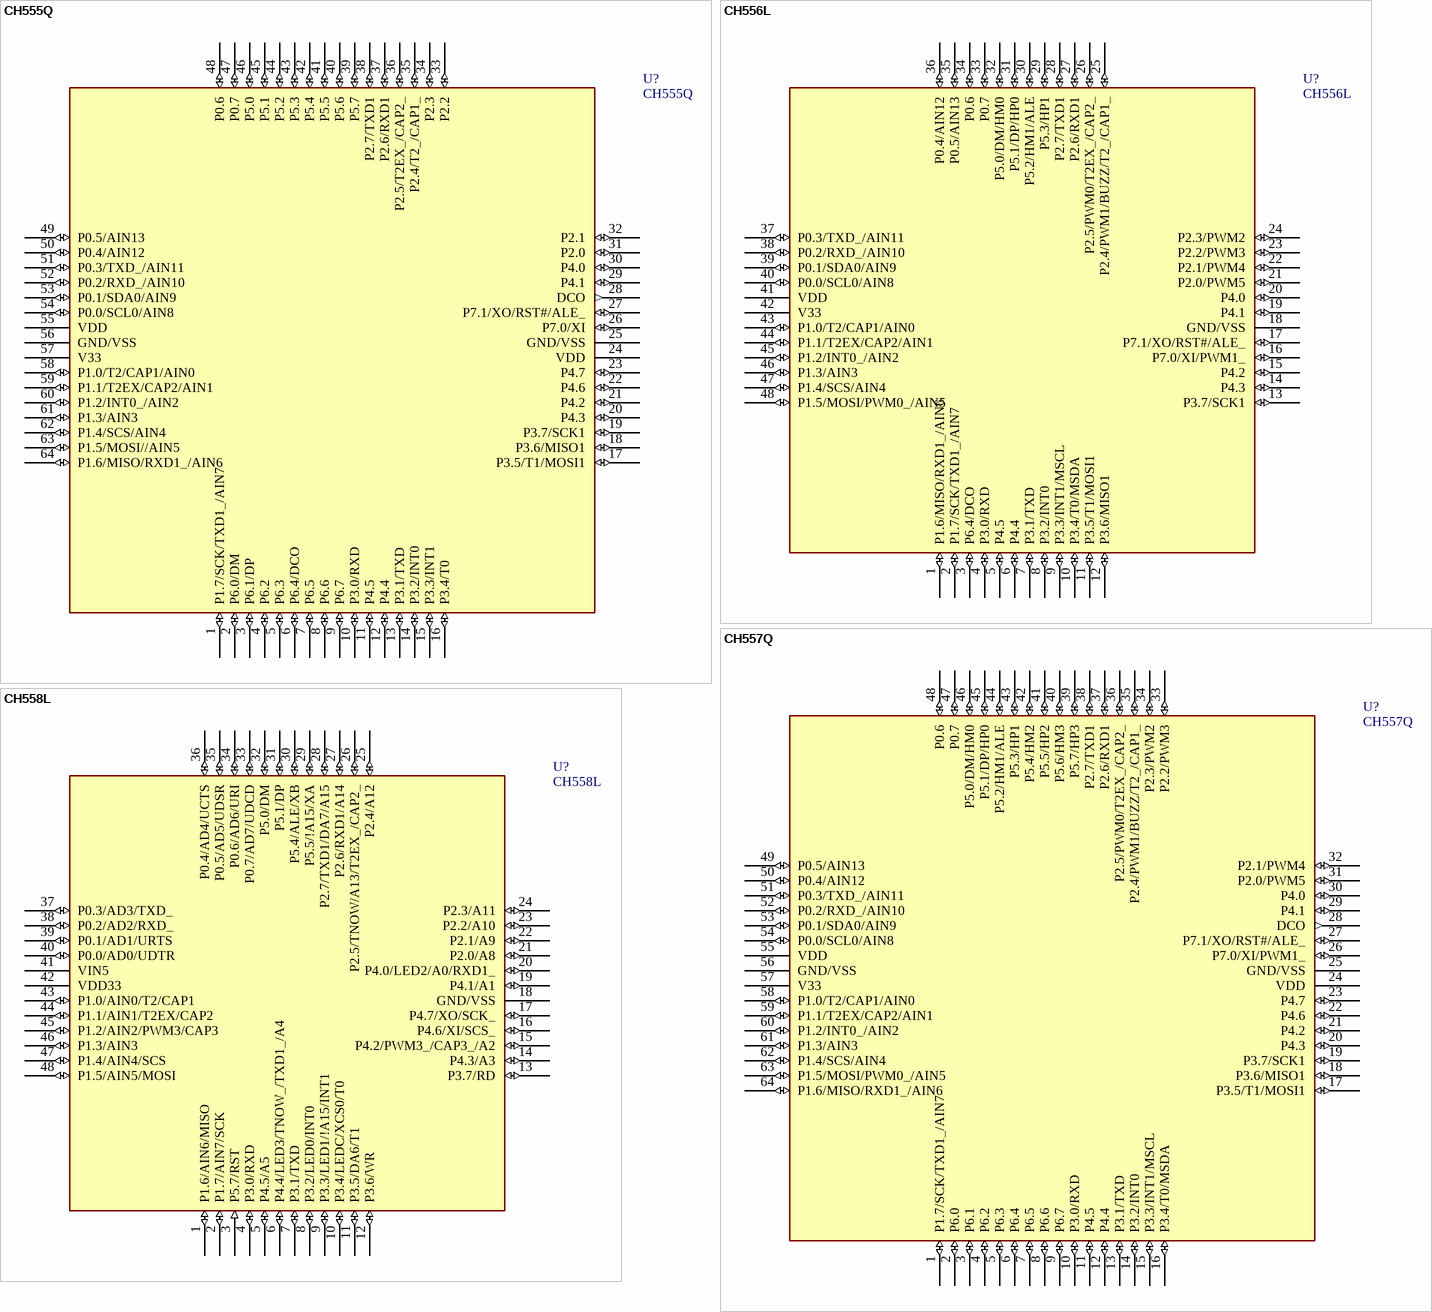
[diagram p29: symbols CH555Q to CH558L]

## CH555Q
designator U?
8bit MCS51 MCU with ADC & USB device & RGB PWM & UART & SPI & I2C
footprint LQFP64
pins: 1 P1.7/SCK/TXD1_/AIN7 (io), 2 P6.0/DM (io), 3 P6.1/DP (io), 4 P6.2 (io), 5 P6.3 (io), 6 P6.4/DCO (io), 7 P6.5 (io), 8 P6.6 (io), 9 P6.7 (io), 10 P3.0/RXD (io), 11 P4.5 (io), 12 P4.4 (io), 13 P3.1/TXD (io), 14 P3.2/INT0 (io), 15 P3.3/INT1 (io), 16 P3.4/T0 (io), 17 P3.5/T1/MOSI1 (io), 18 P3.6/MISO1 (io), 19 P3.7/SCK1 (io), 20 P4.3 (io), 21 P4.2 (io), 22 P4.6 (io), 23 P4.7 (io), 24 VDD (power), 25 GND/VSS (power), 26 P7.0/XI (io), 27 P7.1/XO/RST#/ALE_ (io), 28 DCO (out), 29 P4.1 (io), 30 P4.0 (io), 31 P2.0 (io), 32 P2.1 (io), 33 P2.2 (io), 34 P2.3 (io), 35 P2.4/T2_/CAP1_ (io), 36 P2.5/T2EX_/CAP2_ (io), 37 P2.6/RXD1 (io), 38 P2.7/TXD1 (io), 39 P5.7 (io), 40 P5.6 (io), 41 P5.5 (io), 42 P5.4 (io), 43 P5.3 (io), 44 P5.2 (io), 45 P5.1 (io), 46 P5.0 (io), 47 P0.7 (io), 48 P0.6 (io), 49 P0.5/AIN13 (io), 50 P0.4/AIN12 (io), 51 P0.3/TXD_/AIN11 (io), 52 P0.2/RXD_/AIN10 (io), 53 P0.1/SDA0/AIN9 (io), 54 P0.0/SCL0/AIN8 (io), 55 VDD (power), 56 GND/VSS (power), 57 V33 (power), 58 P1.0/T2/CAP1/AIN0 (io), 59 P1.1/T2EX/CAP2/AIN1 (io), 60 P1.2/INT0_/AIN2 (io), 61 P1.3/AIN3 (io), 62 P1.4/SCS/AIN4 (io), 63 P1.5/MOSI//AIN5 (io), 64 P1.6/MISO/RXD1_/AIN6 (io)

## CH556L
designator U?
8bit MCS51 MCU with ADC & USB host 2 ports & device & dual UART & SPI & I2C
footprint LQFP48
pins: 1 P1.6/MISO/RXD1_/AIN6 (io), 2 P1.7/SCK/TXD1_/AIN7 (io), 3 P6.4/DCO (io), 4 P3.0/RXD (io), 5 P4.5 (io), 6 P4.4 (io), 7 P3.1/TXD (io), 8 P3.2/INT0 (io), 9 P3.3/INT1/MSCL (io), 10 P3.4/T0/MSDA (io), 11 P3.5/T1/MOSI1 (io), 12 P3.6/MISO1 (io), 13 P3.7/SCK1 (io), 14 P4.3 (io), 15 P4.2 (io), 16 P7.0/XI/PWM1_ (io), 17 P7.1/XO/RST#/ALE_ (io), 18 GND/VSS (power), 19 P4.1 (io), 20 P4.0 (io), 21 P2.0/PWM5 (io), 22 P2.1/PWM4 (io), 23 P2.2/PWM3 (io), 24 P2.3/PWM2 (io), 25 P2.4/PWM1/BUZZ/T2_/CAP1_ (io), 26 P2.5/PWM0/T2EX_/CAP2_ (io), 27 P2.6/RXD1 (io), 28 P2.7/TXD1 (io), 29 P5.3/HP1 (io), 30 P5.2/HM1/ALE (io), 31 P5.1/DP/HP0 (io), 32 P5.0/DM/HM0 (io), 33 P0.7 (io), 34 P0.6 (io), 35 P0.5/AIN13 (io), 36 P0.4/AIN12 (io), 37 P0.3/TXD_/AIN11 (io), 38 P0.2/RXD_/AIN10 (io), 39 P0.1/SDA0/AIN9 (io), 40 P0.0/SCL0/AIN8 (io), 41 VDD (power), 42 V33 (power), 43 P1.0/T2/CAP1/AIN0 (io), 44 P1.1/T2EX/CAP2/AIN1 (io), 45 P1.2/INT0_/AIN2 (io), 46 P1.3/AIN3 (io), 47 P1.4/SCS/AIN4 (io), 48 P1.5/MOSI/PWM0_/AIN5 (io)

## CH557Q
designator U?
8bit MCS51 MCU with ADC & USB host 4 ports & USB device & RGB PWM & dual UART & SPI & I2C
footprint LQFP64
pins: 1 P1.7/SCK/TXD1_/AIN7 (io), 2 P6.0 (io), 3 P6.1 (io), 4 P6.2 (io), 5 P6.3 (io), 6 P6.4 (io), 7 P6.5 (io), 8 P6.6 (io), 9 P6.7 (io), 10 P3.0/RXD (io), 11 P4.5 (io), 12 P4.4 (io), 13 P3.1/TXD (io), 14 P3.2/INT0 (io), 15 P3.3/INT1/MSCL (io), 16 P3.4/T0/MSDA (io), 17 P3.5/T1/MOSI1 (io), 18 P3.6/MISO1 (io), 19 P3.7/SCK1 (io), 20 P4.3 (io), 21 P4.2 (io), 22 P4.6 (io), 23 P4.7 (io), 24 VDD (power), 25 GND/VSS (power), 26 P7.0/XI/PWM1_ (io), 27 P7.1/XO/RST#/ALE_ (io), 28 DCO (out), 29 P4.1 (io), 30 P4.0 (io), 31 P2.0/PWM5 (io), 32 P2.1/PWM4 (io), 33 P2.2/PWM3 (io), 34 P2.3/PWM2 (io), 35 P2.4/PWM1/BUZZ/T2_/CAP1_ (io), 36 P2.5/PWM0/T2EX_/CAP2_ (io), 37 P2.6/RXD1 (io), 38 P2.7/TXD1 (io), 39 P5.7/HP3 (io), 40 P5.6/HM3 (io), 41 P5.5/HP2 (io), 42 P5.4/HM2 (io), 43 P5.3/HP1 (io), 44 P5.2/HM1/ALE (io), 45 P5.1/DP/HP0 (io), 46 P5.0/DM/HM0 (io), 47 P0.7 (io), 48 P0.6 (io), 49 P0.5/AIN13 (io), 50 P0.4/AIN12 (io), 51 P0.3/TXD_/AIN11 (io), 52 P0.2/RXD_/AIN10 (io), 53 P0.1/SDA0/AIN9 (io), 54 P0.0/SCL0/AIN8 (io), 55 VDD (power), 56 GND/VSS (power), 57 V33 (power), 58 P1.0/T2/CAP1/AIN0 (io), 59 P1.1/T2EX/CAP2/AIN1 (io), 60 P1.2/INT0_/AIN2 (io), 61 P1.3/AIN3 (io), 62 P1.4/SCS/AIN4 (io), 63 P1.5/MOSI/PWM0_/AIN5 (io), 64 P1.6/MISO/RXD1_/AIN6 (io)

## CH558L
designator U?
8bit MCS51 MCU with ADC & SPI & USB device & dual UART
footprint LQFP48
pins: 1 P1.6/AIN6/MISO (io), 2 P1.7/AIN7/SCK (io), 3 P5.7/RST (in), 4 P3.0/RXD (io), 5 P4.5/A5 (io), 6 P4.4/LED3/TNOW_/TXD1_/A4 (io), 7 P3.1/TXD (io), 8 P3.2/LED0/INT0 (io), 9 P3.3/LED1/!A15/INT1 (io), 10 P3.4/LEDC/XCS0/T0 (io), 11 P3.5/DA6/T1 (io), 12 P3.6/WR (io), 13 P3.7/RD (io), 14 P4.3/A3 (io), 15 P4.2/PWM3_/CAP3_/A2 (io), 16 P4.6/XI/SCS_ (io), 17 P4.7/XO/SCK_ (io), 18 GND/VSS (power), 19 P4.1/A1 (io), 20 P4.0/LED2/A0/RXD1_ (io), 21 P2.0/A8 (io), 22 P2.1/A9 (io), 23 P2.2/A10 (io), 24 P2.3/A11 (io), 25 P2.4/A12 (io), 26 P2.5/TNOW/A13/T2EX_/CAP2_ (io), 27 P2.6/RXD1/A14 (io), 28 P2.7/TXD1/DA7/A15 (io), 29 P5.5/!A15/XA (io), 30 P5.4/ALE/XB (io), 31 P5.1/DP (io), 32 P5.0/DM (io), 33 P0.7/AD7/UDCD (io), 34 P0.6/AD6/URI (io), 35 P0.5/AD5/UDSR (io), 36 P0.4/AD4/UCTS (io), 37 P0.3/AD3/TXD_ (io), 38 P0.2/AD2/RXD_ (io), 39 P0.1/AD1/URTS (io), 40 P0.0/AD0/UDTR (io), 41 VIN5 (power), 42 VDD33 (power), 43 P1.0/AIN0/T2/CAP1 (io), 44 P1.1/AIN1/T2EX/CAP2 (io), 45 P1.2/AIN2/PWM3/CAP3 (io), 46 P1.3/AIN3 (io), 47 P1.4/AIN4/SCS (io), 48 P1.5/AIN5/MOSI (io)

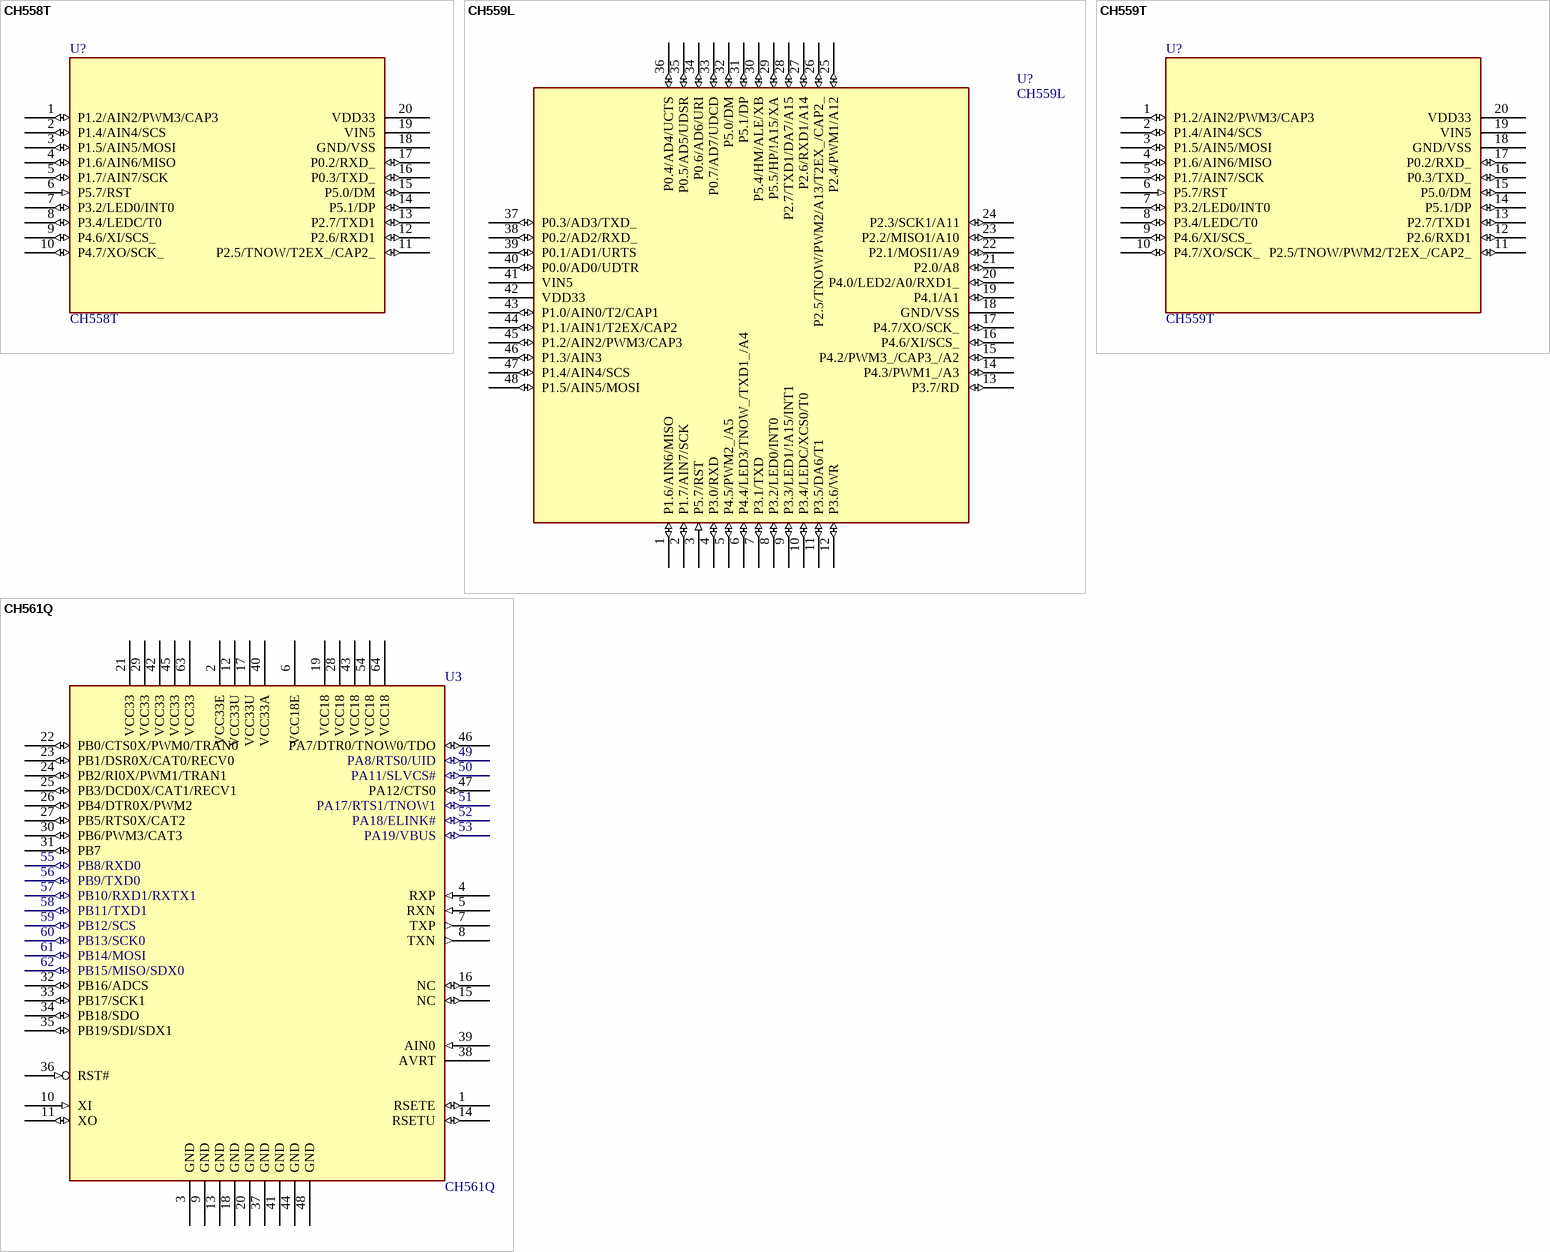
[diagram p30: symbols CH558T to CH561Q]

## CH558T
designator U?
8bit MCS51 MCU with ADC & SPI & USB device & dual UART
footprint SSOP20
footprint DIP20
pins: 1 P1.2/AIN2/PWM3/CAP3 (io), 2 P1.4/AIN4/SCS (io), 3 P1.5/AIN5/MOSI (io), 4 P1.6/AIN6/MISO (io), 5 P1.7/AIN7/SCK (io), 6 P5.7/RST (in), 7 P3.2/LED0/INT0 (io), 8 P3.4/LEDC/T0 (io), 9 P4.6/XI/SCS_ (io), 10 P4.7/XO/SCK_ (io), 11 P2.5/TNOW/T2EX_/CAP2_ (io), 12 P2.6/RXD1 (io), 13 P2.7/TXD1 (io), 14 P5.1/DP (io), 15 P5.0/DM (io), 16 P0.3/TXD_ (io), 17 P0.2/RXD_ (io), 18 GND/VSS (power), 19 VIN5 (power), 20 VDD33 (power)

## CH559L
designator U?
8bit MCS51 MCU with ADC & SPI & 2 * USB host & device & dual UART
footprint LQFP48
pins: 1 P1.6/AIN6/MISO (io), 2 P1.7/AIN7/SCK (io), 3 P5.7/RST (in), 4 P3.0/RXD (io), 5 P4.5/PWM2_/A5 (io), 6 P4.4/LED3/TNOW_/TXD1_/A4 (io), 7 P3.1/TXD (io), 8 P3.2/LED0/INT0 (io), 9 P3.3/LED1/!A15/INT1 (io), 10 P3.4/LEDC/XCS0/T0 (io), 11 P3.5/DA6/T1 (io), 12 P3.6/WR (io), 13 P3.7/RD (io), 14 P4.3/PWM1_/A3 (io), 15 P4.2/PWM3_/CAP3_/A2 (io), 16 P4.6/XI/SCS_ (io), 17 P4.7/XO/SCK_ (io), 18 GND/VSS (power), 19 P4.1/A1 (io), 20 P4.0/LED2/A0/RXD1_ (io), 21 P2.0/A8 (io), 22 P2.1/MOSI1/A9 (io), 23 P2.2/MISO1/A10 (io), 24 P2.3/SCK1/A11 (io), 25 P2.4/PWM1/A12 (io), 26 P2.5/TNOW/PWM2/A13/T2EX_/CAP2_ (io), 27 P2.6/RXD1/A14 (io), 28 P2.7/TXD1/DA7/A15 (io), 29 P5.5/HP/!A15/XA (io), 30 P5.4/HM/ALE/XB (io), 31 P5.1/DP (io), 32 P5.0/DM (io), 33 P0.7/AD7/UDCD (io), 34 P0.6/AD6/URI (io), 35 P0.5/AD5/UDSR (io), 36 P0.4/AD4/UCTS (io), 37 P0.3/AD3/TXD_ (io), 38 P0.2/AD2/RXD_ (io), 39 P0.1/AD1/URTS (io), 40 P0.0/AD0/UDTR (io), 41 VIN5 (power), 42 VDD33 (power), 43 P1.0/AIN0/T2/CAP1 (io), 44 P1.1/AIN1/T2EX/CAP2 (io), 45 P1.2/AIN2/PWM3/CAP3 (io), 46 P1.3/AIN3 (io), 47 P1.4/AIN4/SCS (io), 48 P1.5/AIN5/MOSI (io)

## CH559T
designator U?
8bit MCS51 MCU with ADC & SPI & USB host & device & dual UART
footprint SSOP20
footprint DIP20
pins: 1 P1.2/AIN2/PWM3/CAP3 (io), 2 P1.4/AIN4/SCS (io), 3 P1.5/AIN5/MOSI (io), 4 P1.6/AIN6/MISO (io), 5 P1.7/AIN7/SCK (io), 6 P5.7/RST (in), 7 P3.2/LED0/INT0 (io), 8 P3.4/LEDC/T0 (io), 9 P4.6/XI/SCS_ (io), 10 P4.7/XO/SCK_ (io), 11 P2.5/TNOW/PWM2/T2EX_/CAP2_ (io), 12 P2.6/RXD1 (io), 13 P2.7/TXD1 (io), 14 P5.1/DP (io), 15 P5.0/DM (io), 16 P0.3/TXD_ (io), 17 P0.2/RXD_ (io), 18 GND/VSS (power), 19 VIN5 (power), 20 VDD33 (power)

## CH561Q
designator U3
32bit MCU with 100Mbps Ethernet
footprint LQFP64M_10x10
pins: 1 RSETE (io), 2 VCC33E (power), 3 GND (power), 4 RXP (in), 5 RXN (in), 6 VCC18E (power), 7 TXP (out), 8 TXN (out), 9 GND (power), 10 XI (in), 11 XO (io), 12 VCC33U (power), 13 GND (power), 14 RSETU (io), 15 NC (io), 16 NC (io), 17 VCC33U (power), 18 GND (power), 19 VCC18 (power), 20 GND (power), 21 VCC33 (power), 22 PB0/CTS0X/PWM0/TRAN0 (io), 23 PB1/DSR0X/CAT0/RECV0 (io), 24 PB2/RI0X/PWM1/TRAN1 (io), 25 PB3/DCD0X/CAT1/RECV1 (io), 26 PB4/DTR0X/PWM2 (io), 27 PB5/RTS0X/CAT2 (io), 28 VCC18 (power), 29 VCC33 (power), 30 PB6/PWM3/CAT3 (io), 31 PB7 (io), 32 PB16/ADCS (io), 33 PB17/SCK1 (io), 34 PB18/SDO (io), 35 PB19/SDI/SDX1 (io), 36 RST# (in), 37 GND (power), 38 AVRT (power), 39 AIN0 (in), 40 VCC33A (power), 41 GND (power), 42 VCC33 (power), 43 VCC18 (power), 44 GND (power), 45 VCC33 (power), 46 PA7/DTR0/TNOW0/TDO (io), 47 PA12/CTS0 (io), 48 GND (power), 49 PA8/RTS0/UID (io), 50 PA11/SLVCS# (io), 51 PA17/RTS1/TNOW1 (io), 52 PA18/ELINK# (io), 53 PA19/VBUS (io), 54 VCC18 (power), 55 PB8/RXD0 (io), 56 PB9/TXD0 (io), 57 PB10/RXD1/RXTX1 (io), 58 PB11/TXD1 (io), 59 PB12/SCS (io), 60 PB13/SCK0 (io), 61 PB14/MOSI (io), 62 PB15/MISO/SDX0 (io), 63 VCC33 (power), 64 VCC18 (power)

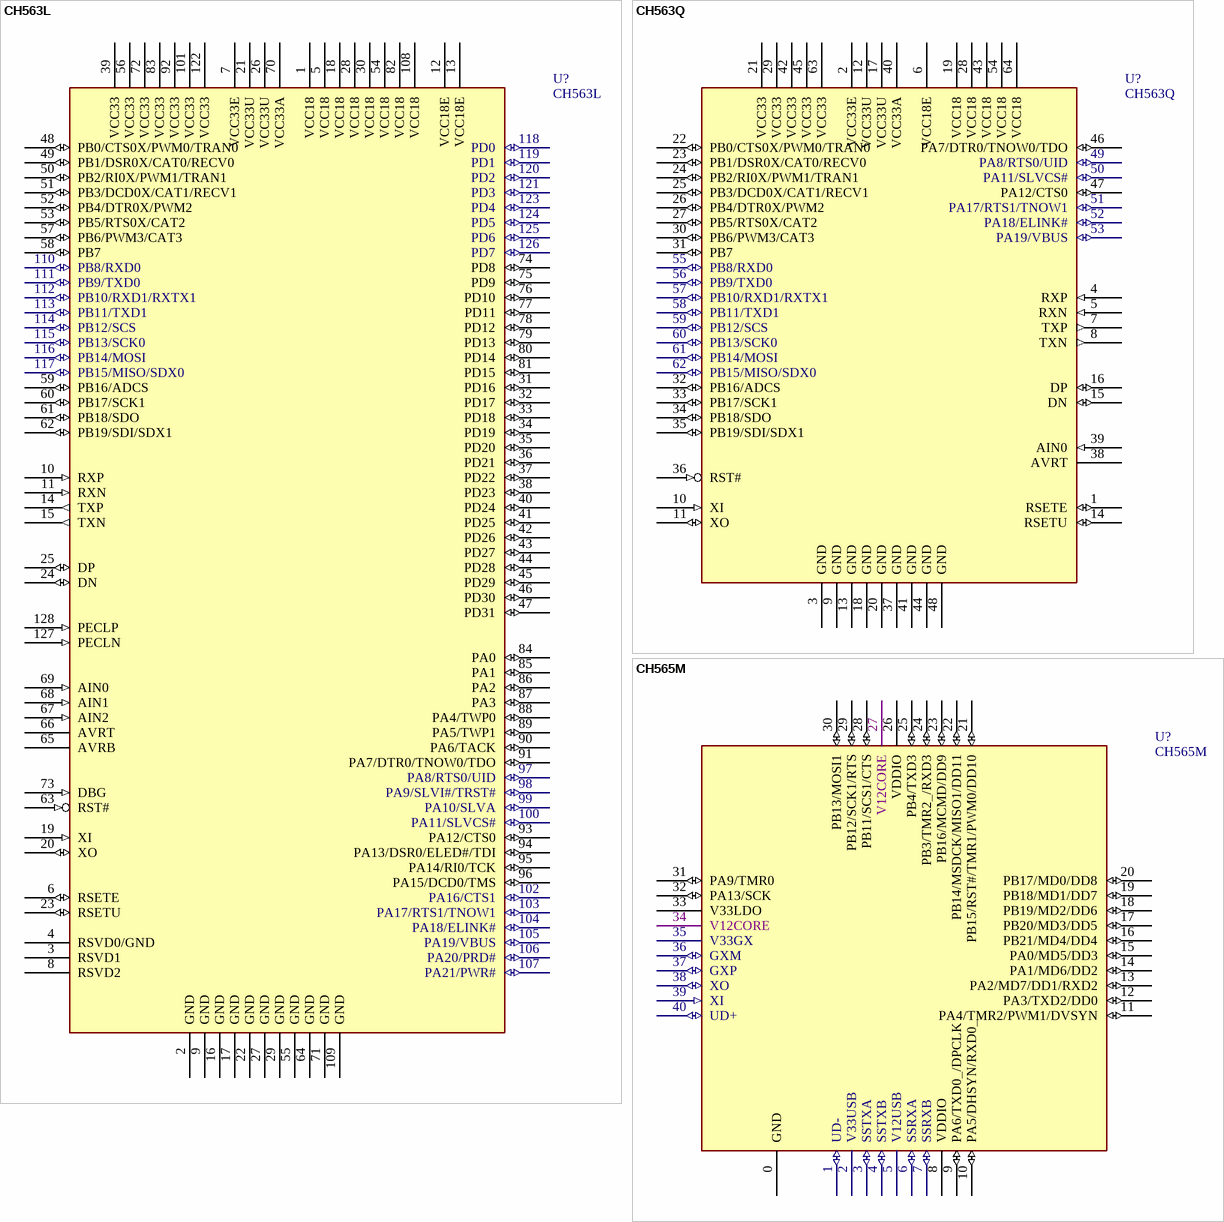
[diagram p31: symbols CH563L to CH565M]

## CH563L
designator U?
32bit MCU with USB OTG 2.0 & 100Mbps Ethernet
footprint LQFP128
pins: 1 VCC18 (power), 2 GND (power), 3 RSVD1, 4 RSVD0/GND (power), 5 VCC18 (power), 6 RSETE (io), 7 VCC33E (power), 8 RSVD2, 9 GND (power), 10 RXP (in), 11 RXN (in), 12 VCC18E (power), 13 VCC18E (power), 14 TXP (out), 15 TXN (out), 16 GND (power), 17 GND (power), 18 VCC18 (power), 19 XI (in), 20 XO (io), 21 VCC33U (power), 22 GND (power), 23 RSETU (io), 24 DN (io), 25 DP (io), 26 VCC33U (power), 27 GND (power), 28 VCC18 (power), 29 GND (power), 30 VCC18 (power), 31 PD16 (io), 32 PD17 (io), 33 PD18 (io), 34 PD19 (io), 35 PD20 (io), 36 PD21 (io), 37 PD22 (io), 38 PD23 (io), 39 VCC33 (power), 40 PD24 (io), 41 PD25 (io), 42 PD26 (io), 43 PD27 (io), 44 PD28 (io), 45 PD29 (io), 46 PD30 (io), 47 PD31 (io), 48 PB0/CTS0X/PWM0/TRAN0 (io), 49 PB1/DSR0X/CAT0/RECV0 (io), 50 PB2/RI0X/PWM1/TRAN1 (io), 51 PB3/DCD0X/CAT1/RECV1 (io), 52 PB4/DTR0X/PWM2 (io), 53 PB5/RTS0X/CAT2 (io), 54 VCC18 (power), 55 GND (power), 56 VCC33 (power), 57 PB6/PWM3/CAT3 (io), 58 PB7 (io), 59 PB16/ADCS (io), 60 PB17/SCK1 (io), 61 PB18/SDO (io), 62 PB19/SDI/SDX1 (io), 63 RST# (in), 64 GND (power), 65 AVRB (power), 66 AVRT (power), 67 AIN2 (in), 68 AIN1 (in), 69 AIN0 (in), 70 VCC33A (power), 71 GND (power), 72 VCC33 (power), 73 DBG (in), 74 PD8 (io), 75 PD9 (io), 76 PD10 (io), 77 PD11 (io), 78 PD12 (io), 79 PD13 (io), 80 PD14 (io), 81 PD15 (io), 82 VCC18 (power), 83 VCC33 (power), 84 PA0 (io), 85 PA1 (io), 86 PA2 (io), 87 PA3 (io), 88 PA4/TWP0 (io), 89 PA5/TWP1 (io), 90 PA6/TACK (io), 91 PA7/DTR0/TNOW0/TDO (io), 92 VCC33 (power), 93 PA12/CTS0 (io), 94 PA13/DSR0/ELED#/TDI (io), 95 PA14/RI0/TCK (io), 96 PA15/DCD0/TMS (io), 97 PA8/RTS0/UID (io), 98 PA9/SLVI#/TRST# (io), 99 PA10/SLVA (io), 100 PA11/SLVCS# (io), 101 VCC33 (power), 102 PA16/CTS1 (io), 103 PA17/RTS1/TNOW1 (io), 104 PA18/ELINK# (io), 105 PA19/VBUS (io), 106 PA20/PRD# (io), 107 PA21/PWR# (io), 108 VCC18 (power), 109 GND (power), 110 PB8/RXD0 (io), 111 PB9/TXD0 (io), 112 PB10/RXD1/RXTX1 (io), 113 PB11/TXD1 (io), 114 PB12/SCS (io), 115 PB13/SCK0 (io), 116 PB14/MOSI (io), 117 PB15/MISO/SDX0 (io), 118 PD0 (io), 119 PD1 (io), 120 PD2 (io), 121 PD3 (io), 122 VCC33 (power), 123 PD4 (io), 124 PD5 (io), 125 PD6 (io), 126 PD7 (io), 127 PECLN (in), 128 PECLP (in)

## CH563Q
designator U?
32bit MCU with USB OTG 2.0 & 100Mbps Ethernet
footprint LQFP64M_10x10
pins: 1 RSETE (io), 2 VCC33E (power), 3 GND (power), 4 RXP (in), 5 RXN (in), 6 VCC18E (power), 7 TXP (out), 8 TXN (out), 9 GND (power), 10 XI (in), 11 XO (io), 12 VCC33U (power), 13 GND (power), 14 RSETU (io), 15 DN (io), 16 DP (io), 17 VCC33U (power), 18 GND (power), 19 VCC18 (power), 20 GND (power), 21 VCC33 (power), 22 PB0/CTS0X/PWM0/TRAN0 (io), 23 PB1/DSR0X/CAT0/RECV0 (io), 24 PB2/RI0X/PWM1/TRAN1 (io), 25 PB3/DCD0X/CAT1/RECV1 (io), 26 PB4/DTR0X/PWM2 (io), 27 PB5/RTS0X/CAT2 (io), 28 VCC18 (power), 29 VCC33 (power), 30 PB6/PWM3/CAT3 (io), 31 PB7 (io), 32 PB16/ADCS (io), 33 PB17/SCK1 (io), 34 PB18/SDO (io), 35 PB19/SDI/SDX1 (io), 36 RST# (in), 37 GND (power), 38 AVRT (power), 39 AIN0 (in), 40 VCC33A (power), 41 GND (power), 42 VCC33 (power), 43 VCC18 (power), 44 GND (power), 45 VCC33 (power), 46 PA7/DTR0/TNOW0/TDO (io), 47 PA12/CTS0 (io), 48 GND (power), 49 PA8/RTS0/UID (io), 50 PA11/SLVCS# (io), 51 PA17/RTS1/TNOW1 (io), 52 PA18/ELINK# (io), 53 PA19/VBUS (io), 54 VCC18 (power), 55 PB8/RXD0 (io), 56 PB9/TXD0 (io), 57 PB10/RXD1/RXTX1 (io), 58 PB11/TXD1 (io), 59 PB12/SCS (io), 60 PB13/SCK0 (io), 61 PB14/MOSI (io), 62 PB15/MISO/SDX0 (io), 63 VCC33 (power), 64 VCC18 (power)

## CH565M
designator U?
32bit RISC-V MCU with USB 3.0 SS/HS & UART & DVP
footprint QFN40_5X5
pins: 0 GND (power), 1 UD- (io), 2 V33USB (power), 3 SSTXA (io), 4 SSTXB (io), 5 V12USB (power), 6 SSRXA (io), 7 SSRXB (io), 8 VDDIO (power), 9 PA6/TXD0_/DPCLK (io), 10 PA5/DHSYN/RXD0_ (io), 11 PA4/TMR2/PWM1/DVSYN (io), 12 PA3/TXD2/DD0 (io), 13 PA2/MD7/DD1/RXD2 (io), 14 PA1/MD6/DD2 (io), 15 PA0/MD5/DD3 (io), 16 PB21/MD4/DD4 (io), 17 PB20/MD3/DD5 (io), 18 PB19/MD2/DD6 (io), 19 PB18/MD1/DD7 (io), 20 PB17/MD0/DD8 (io), 21 PB15/RST#/TMR1/PWM0/DD10 (io), 22 PB14/MSDCK/MISO1/DD11 (io), 23 PB16/MCMD/DD9 (io), 24 PB3/TMR2_/RXD3 (io), 25 PB4/TXD3 (io), 26 VDDIO (power), 27 V12CORE (power), 28 PB11/SCS1/CTS (io), 29 PB12/SCK1/RTS (io), 30 PB13/MOSI1 (io), 31 PA9/TMR0 (io), 32 PA13/SCK (io), 33 V33LDO (power), 34 V12CORE (power), 35 V33GX (power), 36 GXM (io), 37 GXP (io), 38 XO (io), 39 XI (in), 40 UD+ (io)
2 alternate drawings of the same symbol

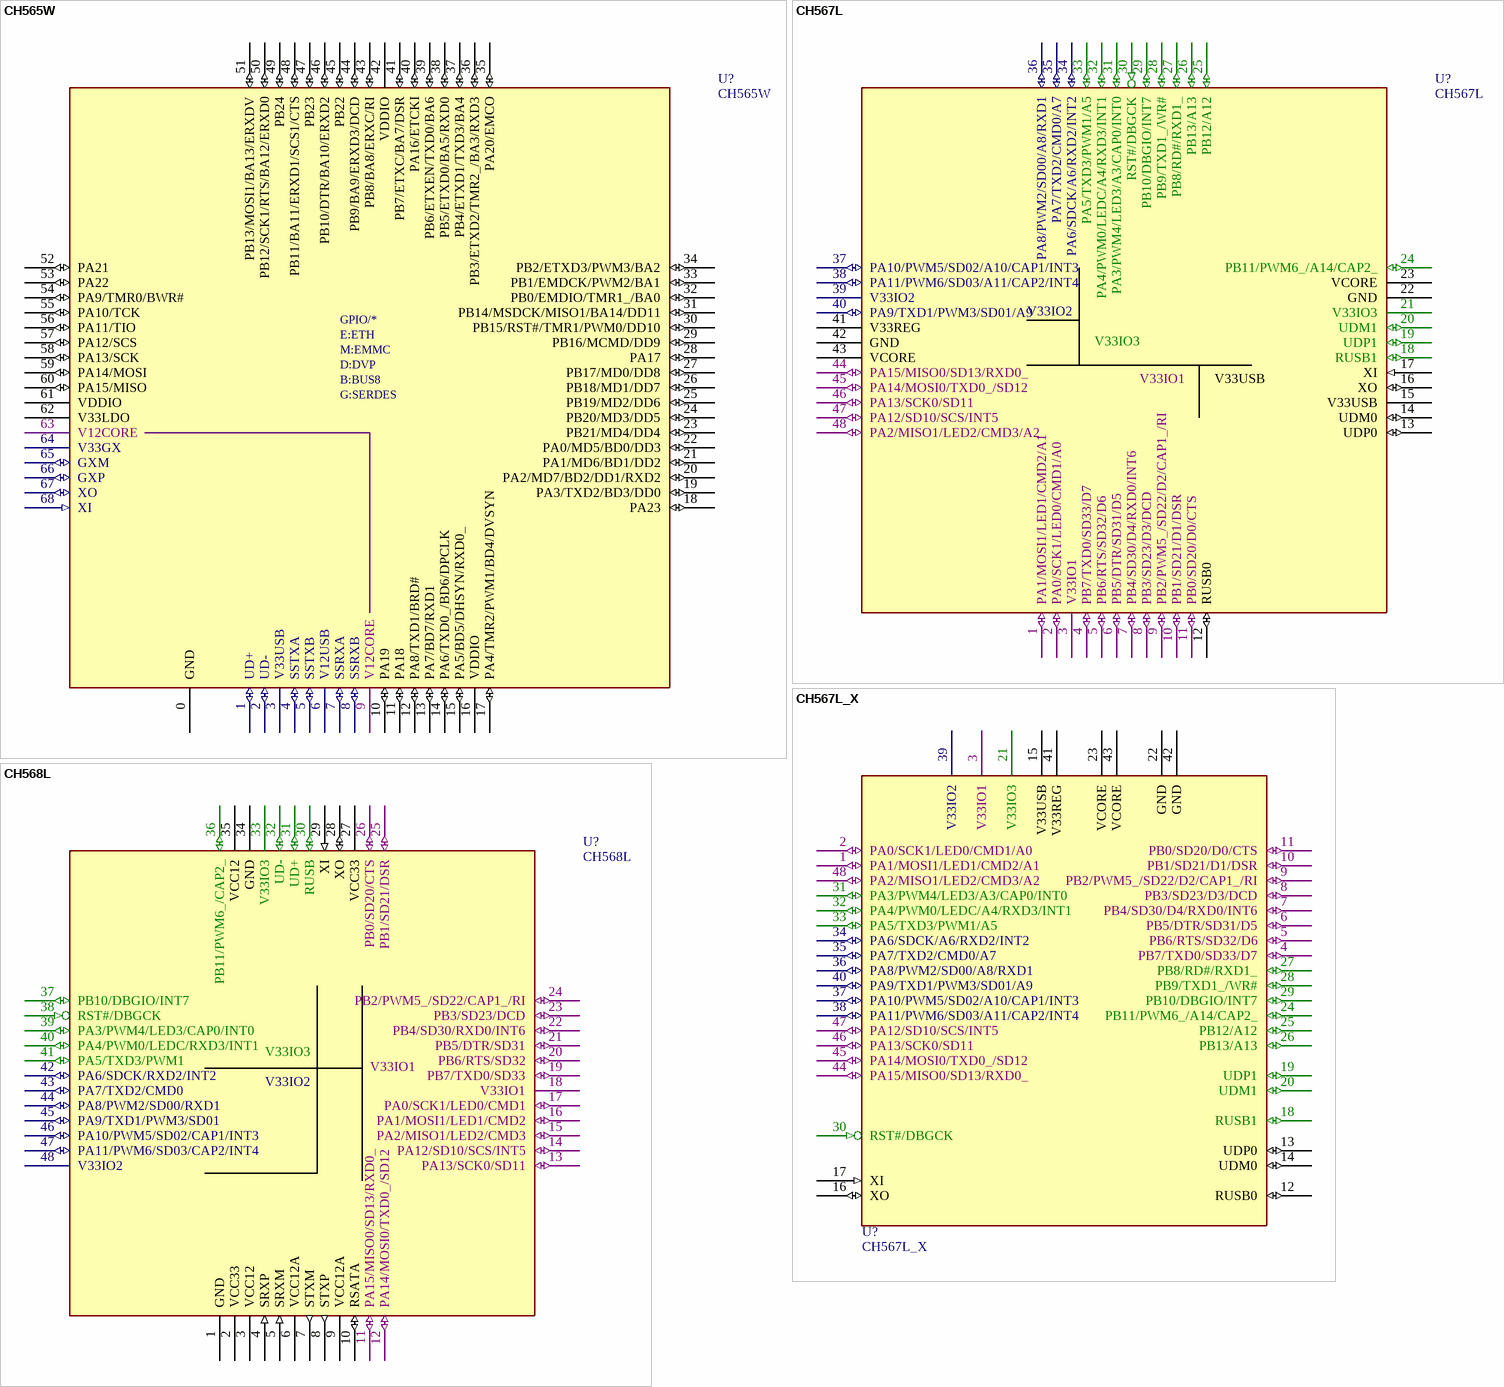
[diagram p32: symbols CH565W to CH568L]

## CH565W
designator U?
32bit RISC-V MCU with USB 3.0 SS/HS & 4*UART & ETH & DVP
footprint QFN68_8X8
pins: 0 GND (power), 1 UD+ (io), 2 UD- (io), 3 V33USB (power), 4 SSTXA (io), 5 SSTXB (io), 6 V12USB (power), 7 SSRXA (io), 8 SSRXB (io), 9 V12CORE (power), 10 PA19 (io), 11 PA18 (io), 12 PA8/TXD1/BRD# (io), 13 PA7/BD7/RXD1 (io), 14 PA6/TXD0_/BD6/DPCLK (io), 15 PA5/BD5/DHSYN/RXD0_ (io), 16 VDDIO (power), 17 PA4/TMR2/PWM1/BD4/DVSYN (io), 18 PA23 (io), 19 PA3/TXD2/BD3/DD0 (io), 20 PA2/MD7/BD2/DD1/RXD2 (io), 21 PA1/MD6/BD1/DD2 (io), 22 PA0/MD5/BD0/DD3 (io), 23 PB21/MD4/DD4 (io), 24 PB20/MD3/DD5 (io), 25 PB19/MD2/DD6 (io), 26 PB18/MD1/DD7 (io), 27 PB17/MD0/DD8 (io), 28 PA17 (io), 29 PB16/MCMD/DD9 (io), 30 PB15/RST#/TMR1/PWM0/DD10 (io), 31 PB14/MSDCK/MISO1/BA14/DD11 (io), 32 PB0/EMDIO/TMR1_/BA0 (io), 33 PB1/EMDCK/PWM2/BA1 (io), 34 PB2/ETXD3/PWM3/BA2 (io), 35 PA20/EMCO (io), 36 PB3/ETXD2/TMR2_/BA3/RXD3 (io), 37 PB4/ETXD1/TXD3/BA4 (io), 38 PB5/ETXD0/BA5/RXD0 (io), 39 PB6/ETXEN/TXD0/BA6 (io), 40 PA16/ETCKI (io), 41 PB7/ETXC/BA7/DSR (io), 42 VDDIO (power), 43 PB8/BA8/ERXC/RI (io), 44 PB9/BA9/ERXD3/DCD (io), 45 PB22 (io), 46 PB10/DTR/BA10/ERXD2 (io), 47 PB23 (io), 48 PB11/BA11/ERXD1/SCS1/CTS (io), 49 PB24 (io), 50 PB12/SCK1/RTS/BA12/ERXD0 (io), 51 PB13/MOSI1/BA13/ERXDV (io), 52 PA21 (io), 53 PA22 (io), 54 PA9/TMR0/BWR# (io), 55 PA10/TCK (io), 56 PA11/TIO (io), 57 PA12/SCS (io), 58 PA13/SCK (io), 59 PA14/MOSI (io), 60 PA15/MISO (io), 61 VDDIO (power), 62 V33LDO (power), 63 V12CORE (power), 64 V33GX (power), 65 GXM (io), 66 GXP (io), 67 XO (io), 68 XI (in)
2 alternate drawings of the same symbol
text: GPIO/*; E:ETH; M:EMMC; D:DVP; B:BUS8; G:SERDES

## CH567L
designator U?
32bit MCU with dual USB OTG 2.0 & quad SDIO & quad UART & AES
footprint LQFP48
pins: 1 PA1/MOSI1/LED1/CMD2/A1 (io), 2 PA0/SCK1/LED0/CMD1/A0 (io), 3 V33IO1 (power), 4 PB7/TXD0/SD33/D7 (io), 5 PB6/RTS/SD32/D6 (io), 6 PB5/DTR/SD31/D5 (io), 7 PB4/SD30/D4/RXD0/INT6 (io), 8 PB3/SD23/D3/DCD (io), 9 PB2/PWM5_/SD22/D2/CAP1_/RI (io), 10 PB1/SD21/D1/DSR (io), 11 PB0/SD20/D0/CTS (io), 12 RUSB0 (io), 13 UDP0 (io), 14 UDM0 (io), 15 V33USB (power), 16 XO (io), 17 XI (in), 18 RUSB1 (io), 19 UDP1 (io), 20 UDM1 (io), 21 V33IO3 (power), 22 GND (power), 23 VCORE (power), 24 PB11/PWM6_/A14/CAP2_ (io), 25 PB12/A12 (io), 26 PB13/A13 (io), 27 PB8/RD#/RXD1_ (io), 28 PB9/TXD1_/WR# (io), 29 PB10/DBGIO/INT7 (io), 30 RST#/DBGCK (in), 31 PA3/PWM4/LED3/A3/CAP0/INT0 (io), 32 PA4/PWM0/LEDC/A4/RXD3/INT1 (io), 33 PA5/TXD3/PWM1/A5 (io), 34 PA6/SDCK/A6/RXD2/INT2 (io), 35 PA7/TXD2/CMD0/A7 (io), 36 PA8/PWM2/SD00/A8/RXD1 (io), 37 PA10/PWM5/SD02/A10/CAP1/INT3 (io), 38 PA11/PWM6/SD03/A11/CAP2/INT4 (io), 39 V33IO2 (power), 40 PA9/TXD1/PWM3/SD01/A9 (io), 41 V33REG (power), 42 GND (power), 43 VCORE (power), 44 PA15/MISO0/SD13/RXD0_ (io), 45 PA14/MOSI0/TXD0_/SD12 (io), 46 PA13/SCK0/SD11 (io), 47 PA12/SD10/SCS/INT5 (io), 48 PA2/MISO1/LED2/CMD3/A2 (io)

## CH567L_X
designator U?
32bit MCU with dual USB OTG 2.0 & quad SDIO & quad UART & AES
footprint LQFP48
pins: 1 PA1/MOSI1/LED1/CMD2/A1 (io), 2 PA0/SCK1/LED0/CMD1/A0 (io), 3 V33IO1 (power), 4 PB7/TXD0/SD33/D7 (io), 5 PB6/RTS/SD32/D6 (io), 6 PB5/DTR/SD31/D5 (io), 7 PB4/SD30/D4/RXD0/INT6 (io), 8 PB3/SD23/D3/DCD (io), 9 PB2/PWM5_/SD22/D2/CAP1_/RI (io), 10 PB1/SD21/D1/DSR (io), 11 PB0/SD20/D0/CTS (io), 12 RUSB0 (io), 13 UDP0 (io), 14 UDM0 (io), 15 V33USB (power), 16 XO (io), 17 XI (in), 18 RUSB1 (io), 19 UDP1 (io), 20 UDM1 (io), 21 V33IO3 (power), 22 GND (power), 23 VCORE (power), 24 PB11/PWM6_/A14/CAP2_ (io), 25 PB12/A12 (io), 26 PB13/A13 (io), 27 PB8/RD#/RXD1_ (io), 28 PB9/TXD1_/WR# (io), 29 PB10/DBGIO/INT7 (io), 30 RST#/DBGCK (in), 31 PA3/PWM4/LED3/A3/CAP0/INT0 (io), 32 PA4/PWM0/LEDC/A4/RXD3/INT1 (io), 33 PA5/TXD3/PWM1/A5 (io), 34 PA6/SDCK/A6/RXD2/INT2 (io), 35 PA7/TXD2/CMD0/A7 (io), 36 PA8/PWM2/SD00/A8/RXD1 (io), 37 PA10/PWM5/SD02/A10/CAP1/INT3 (io), 38 PA11/PWM6/SD03/A11/CAP2/INT4 (io), 39 V33IO2 (power), 40 PA9/TXD1/PWM3/SD01/A9 (io), 41 V33REG (power), 42 GND (power), 43 VCORE (power), 44 PA15/MISO0/SD13/RXD0_ (io), 45 PA14/MOSI0/TXD0_/SD12 (io), 46 PA13/SCK0/SD11 (io), 47 PA12/SD10/SCS/INT5 (io), 48 PA2/MISO1/LED2/CMD3/A2 (io)

## CH568L
designator U?
32bit MCU with USB OTG 2.0 & SATA G2 & quad SDIO & quad UART & AES
footprint LQFP48
pins: 1 GND (power), 2 VCC33 (power), 3 VCC12 (power), 4 SRXP (in), 5 SRXM (in), 6 VCC12A (power), 7 STXM (out), 8 STXP (out), 9 VCC12A (power), 10 RSATA (io), 11 PA15/MISO0/SD13/RXD0_ (io), 12 PA14/MOSI0/TXD0_/SD12 (io), 13 PA13/SCK0/SD11 (io), 14 PA12/SD10/SCS/INT5 (io), 15 PA2/MISO1/LED2/CMD3 (io), 16 PA1/MOSI1/LED1/CMD2 (io), 17 PA0/SCK1/LED0/CMD1 (io), 18 V33IO1 (power), 19 PB7/TXD0/SD33 (io), 20 PB6/RTS/SD32 (io), 21 PB5/DTR/SD31 (io), 22 PB4/SD30/RXD0/INT6 (io), 23 PB3/SD23/DCD (io), 24 PB2/PWM5_/SD22/CAP1_/RI (io), 25 PB1/SD21/DSR (io), 26 PB0/SD20/CTS (io), 27 VCC33 (power), 28 XO (io), 29 XI (in), 30 RUSB (io), 31 UD+ (io), 32 UD- (io), 33 V33IO3 (power), 34 GND (power), 35 VCC12 (power), 36 PB11/PWM6_/CAP2_ (io), 37 PB10/DBGIO/INT7 (io), 38 RST#/DBGCK (in), 39 PA3/PWM4/LED3/CAP0/INT0 (io), 40 PA4/PWM0/LEDC/RXD3/INT1 (io), 41 PA5/TXD3/PWM1 (io), 42 PA6/SDCK/RXD2/INT2 (io), 43 PA7/TXD2/CMD0 (io), 44 PA8/PWM2/SD00/RXD1 (io), 45 PA9/TXD1/PWM3/SD01 (io), 46 PA10/PWM5/SD02/CAP1/INT3 (io), 47 PA11/PWM6/SD03/CAP2/INT4 (io), 48 V33IO2 (power)

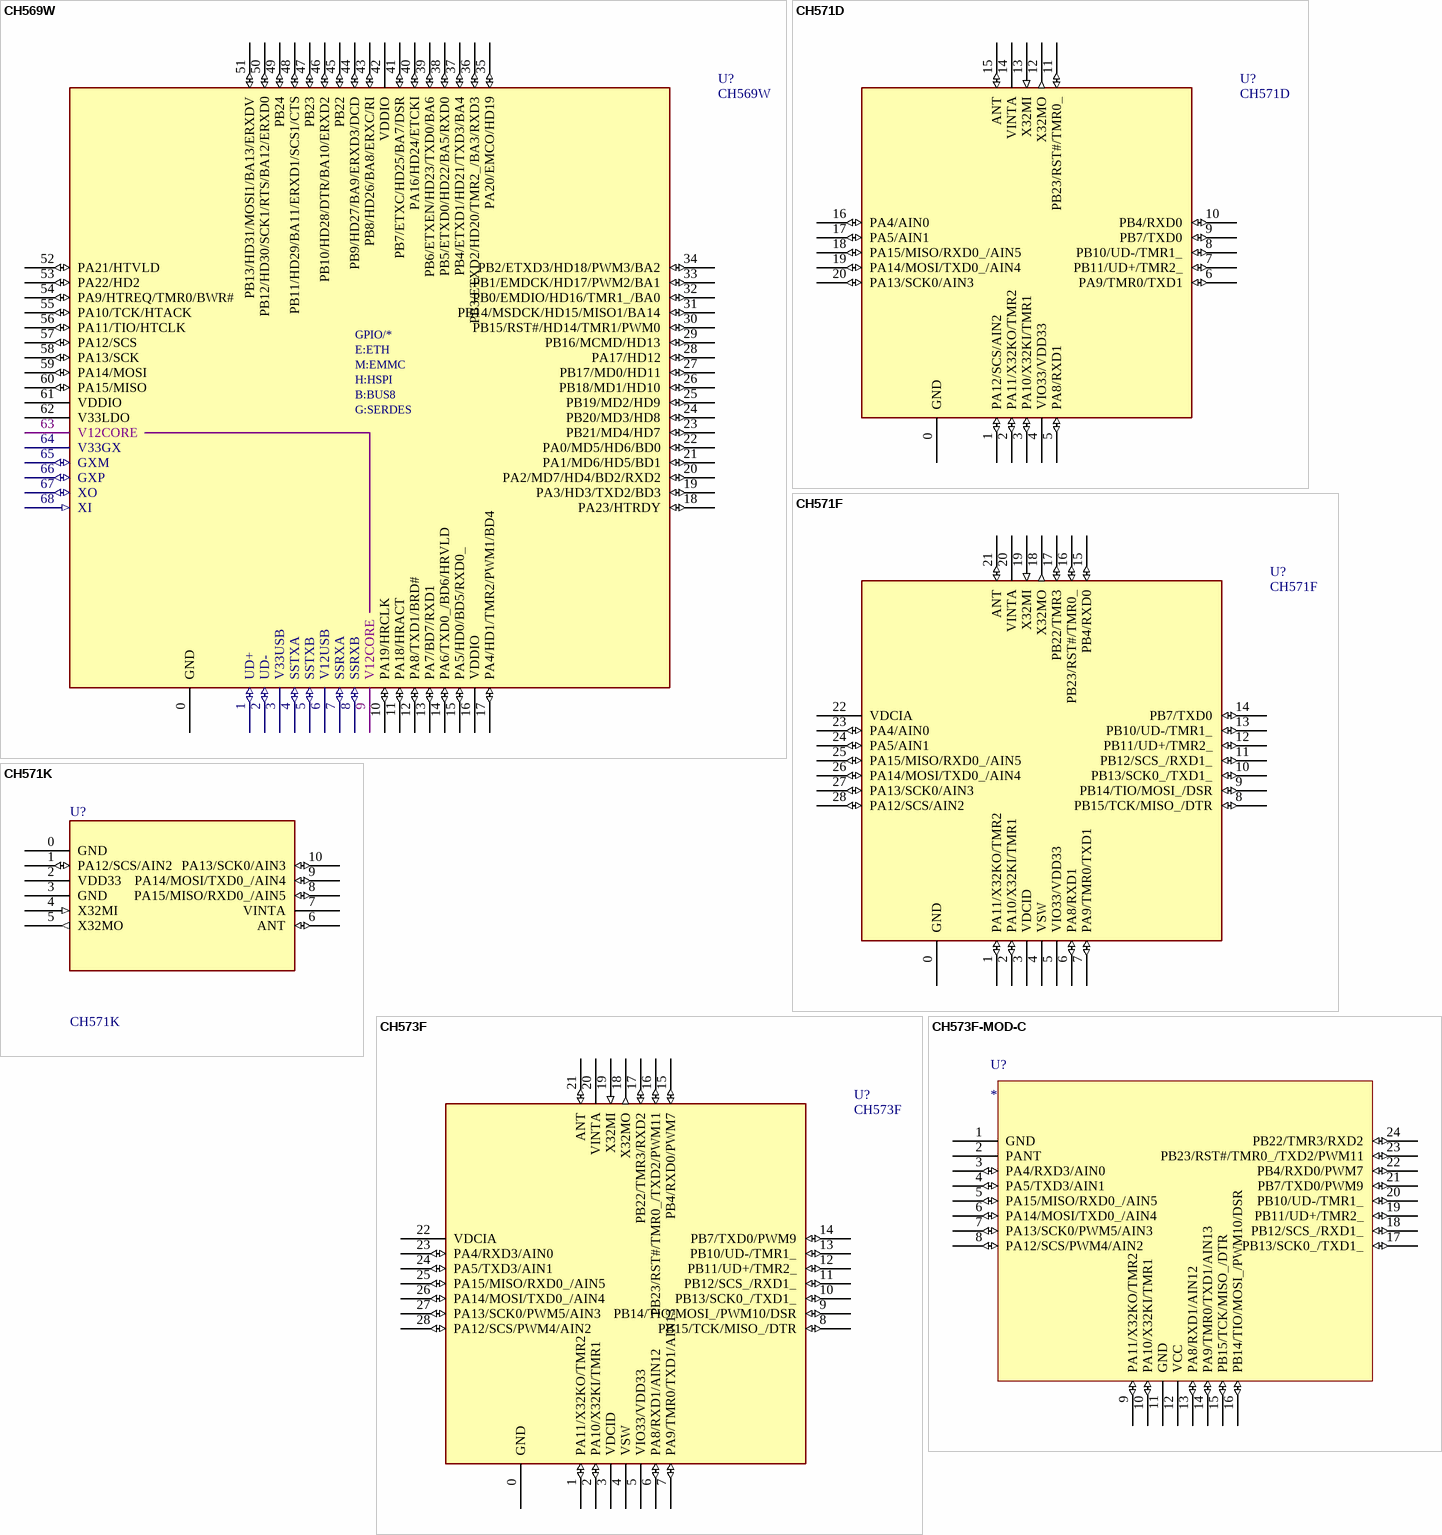
[diagram p33: symbols CH569W to CH573F-MOD-C]

## CH569W
designator U?
32bit RISC-V MCU with USB 3.0 SS/HS & 4*UART & ETH & HSPI
footprint QFN68_8X8
pins: 0 GND (power), 1 UD+ (io), 2 UD- (io), 3 V33USB (power), 4 SSTXA (io), 5 SSTXB (io), 6 V12USB (power), 7 SSRXA (io), 8 SSRXB (io), 9 V12CORE (power), 10 PA19/HRCLK (io), 11 PA18/HRACT (io), 12 PA8/TXD1/BRD# (io), 13 PA7/BD7/RXD1 (io), 14 PA6/TXD0_/BD6/HRVLD (io), 15 PA5/HD0/BD5/RXD0_ (io), 16 VDDIO (power), 17 PA4/HD1/TMR2/PWM1/BD4 (io), 18 PA23/HTRDY (io), 19 PA3/HD3/TXD2/BD3 (io), 20 PA2/MD7/HD4/BD2/RXD2 (io), 21 PA1/MD6/HD5/BD1 (io), 22 PA0/MD5/HD6/BD0 (io), 23 PB21/MD4/HD7 (io), 24 PB20/MD3/HD8 (io), 25 PB19/MD2/HD9 (io), 26 PB18/MD1/HD10 (io), 27 PB17/MD0/HD11 (io), 28 PA17/HD12 (io), 29 PB16/MCMD/HD13 (io), 30 PB15/RST#/HD14/TMR1/PWM0 (io), 31 PB14/MSDCK/HD15/MISO1/BA14 (io), 32 PB0/EMDIO/HD16/TMR1_/BA0 (io), 33 PB1/EMDCK/HD17/PWM2/BA1 (io), 34 PB2/ETXD3/HD18/PWM3/BA2 (io), 35 PA20/EMCO/HD19 (io), 36 PB3/ETXD2/HD20/TMR2_/BA3/RXD3 (io), 37 PB4/ETXD1/HD21/TXD3/BA4 (io), 38 PB5/ETXD0/HD22/BA5/RXD0 (io), 39 PB6/ETXEN/HD23/TXD0/BA6 (io), 40 PA16/HD24/ETCKI (io), 41 PB7/ETXC/HD25/BA7/DSR (io), 42 VDDIO (power), 43 PB8/HD26/BA8/ERXC/RI (io), 44 PB9/HD27/BA9/ERXD3/DCD (io), 45 PB22 (io), 46 PB10/HD28/DTR/BA10/ERXD2 (io), 47 PB23 (io), 48 PB11/HD29/BA11/ERXD1/SCS1/CTS (io), 49 PB24 (io), 50 PB12/HD30/SCK1/RTS/BA12/ERXD0 (io), 51 PB13/HD31/MOSI1/BA13/ERXDV (io), 52 PA21/HTVLD (io), 53 PA22/HD2 (io), 54 PA9/HTREQ/TMR0/BWR# (io), 55 PA10/TCK/HTACK (io), 56 PA11/TIO/HTCLK (io), 57 PA12/SCS (io), 58 PA13/SCK (io), 59 PA14/MOSI (io), 60 PA15/MISO (io), 61 VDDIO (power), 62 V33LDO (power), 63 V12CORE (power), 64 V33GX (power), 65 GXM (io), 66 GXP (io), 67 XO (io), 68 XI (in)
2 alternate drawings of the same symbol
text: GPIO/*; E:ETH; M:EMMC; H:HSPI; B:BUS8; G:SERDES

## CH571D
designator U?
RISC-V MCU with BLE/USB/ADC/SPI/2*UART
footprint QFN20_3X3
pins: 0 GND (power), 1 PA12/SCS/AIN2 (io), 2 PA11/X32KO/TMR2 (io), 3 PA10/X32KI/TMR1 (io), 4 VIO33/VDD33 (power), 5 PA8/RXD1 (io), 6 PA9/TMR0/TXD1 (io), 7 PB11/UD+/TMR2_ (io), 8 PB10/UD-/TMR1_ (io), 9 PB7/TXD0 (io), 10 PB4/RXD0 (io), 11 PB23/RST#/TMR0_ (io), 12 X32MO (out), 13 X32MI (in), 14 VINTA (power), 15 ANT (io), 16 PA4/AIN0 (io), 17 PA5/AIN1 (io), 18 PA15/MISO/RXD0_/AIN5 (io), 19 PA14/MOSI/TXD0_/AIN4 (io), 20 PA13/SCK0/AIN3 (io)
2 alternate drawings of the same symbol

## CH571F
designator U?
RISC-V MCU with BLE/USB/ADC/SPI/2*UART
footprint QFN28_4X4
pins: 0 GND (power), 1 PA11/X32KO/TMR2 (io), 2 PA10/X32KI/TMR1 (io), 3 VDCID (power), 4 VSW (power), 5 VIO33/VDD33 (power), 6 PA8/RXD1 (io), 7 PA9/TMR0/TXD1 (io), 8 PB15/TCK/MISO_/DTR (io), 9 PB14/TIO/MOSI_/DSR (io), 10 PB13/SCK0_/TXD1_ (io), 11 PB12/SCS_/RXD1_ (io), 12 PB11/UD+/TMR2_ (io), 13 PB10/UD-/TMR1_ (io), 14 PB7/TXD0 (io), 15 PB4/RXD0 (io), 16 PB23/RST#/TMR0_ (io), 17 PB22/TMR3 (io), 18 X32MO (out), 19 X32MI (in), 20 VINTA (power), 21 ANT (io), 22 VDCIA (power), 23 PA4/AIN0 (io), 24 PA5/AIN1 (io), 25 PA15/MISO/RXD0_/AIN5 (io), 26 PA14/MOSI/TXD0_/AIN4 (io), 27 PA13/SCK0/AIN3 (io), 28 PA12/SCS/AIN2 (io)
2 alternate drawings of the same symbol

## CH571K
designator U?
RISC-V MCU with BLE/ADC/SPI/UART
footprint ESSOP10 (Footprint not found)
pins: 0 GND (power), 1 PA12/SCS/AIN2 (io), 2 VDD33 (power), 3 GND (power), 4 X32MI (in), 5 X32MO (out), 6 ANT (io), 7 VINTA (power), 8 PA15/MISO/RXD0_/AIN5 (io), 9 PA14/MOSI/TXD0_/AIN4 (io), 10 PA13/SCK0/AIN3 (io)
2 alternate drawings of the same symbol

## CH573F
designator U?
RISC-V MCU with BLE/USB/ADC/SPI/4*UART
footprint QFN28_4X4
pins: 0 GND (power), 1 PA11/X32KO/TMR2 (io), 2 PA10/X32KI/TMR1 (io), 3 VDCID (power), 4 VSW (power), 5 VIO33/VDD33 (power), 6 PA8/RXD1/AIN12 (io), 7 PA9/TMR0/TXD1/AIN13 (io), 8 PB15/TCK/MISO_/DTR (io), 9 PB14/TIO/MOSI_/PWM10/DSR (io), 10 PB13/SCK0_/TXD1_ (io), 11 PB12/SCS_/RXD1_ (io), 12 PB11/UD+/TMR2_ (io), 13 PB10/UD-/TMR1_ (io), 14 PB7/TXD0/PWM9 (io), 15 PB4/RXD0/PWM7 (io), 16 PB23/RST#/TMR0_/TXD2/PWM11 (io), 17 PB22/TMR3/RXD2 (io), 18 X32MO (out), 19 X32MI (in), 20 VINTA (power), 21 ANT (io), 22 VDCIA (power), 23 PA4/RXD3/AIN0 (io), 24 PA5/TXD3/AIN1 (io), 25 PA15/MISO/RXD0_/AIN5 (io), 26 PA14/MOSI/TXD0_/AIN4 (io), 27 PA13/SCK0/PWM5/AIN3 (io), 28 PA12/SCS/PWM4/AIN2 (io)
2 alternate drawings of the same symbol

## CH573F-MOD-C
designator U?
CH573F module, RISC-V MCU with BLE/USB/ADC/SPI/4*UART
footprint BLEMOD-R2-1v0-24PIN
pins: 1 GND (power), 2 PANT, 3 PA4/RXD3/AIN0  (io), 4 PA5/TXD3/AIN1   (io), 5 PA15/MISO/RXD0_/AIN5   (io), 6 PA14/MOSI/TXD0_/AIN4 (io), 7 PA13/SCK0/PWM5/AIN3   (io), 8 PA12/SCS/PWM4/AIN2   (io), 9 PA11/X32KO/TMR2   (io), 10 PA10/X32KI/TMR1   (io), 11 GND (power), 12 VCC (power), 13 PA8/RXD1/AIN12   (io), 14 PA9/TMR0/TXD1/AIN13  (io), 15 PB15/TCK/MISO_/DTR (io), 16 PB14/TIO/MOSI_/PWM10/DSR (io), 17 PB13/SCK0_/TXD1_ (io), 18 PB12/SCS_/RXD1_ (io), 19 PB11/UD+/TMR2_ (io), 20 PB10/UD-/TMR1_ (io), 21 PB7/TXD0/PWM9 (io), 22 PB4/RXD0/PWM7 (io), 23 PB23/RST#/TMR0_/TXD2/PWM11 (io), 24 PB22/TMR3/RXD2 (io)

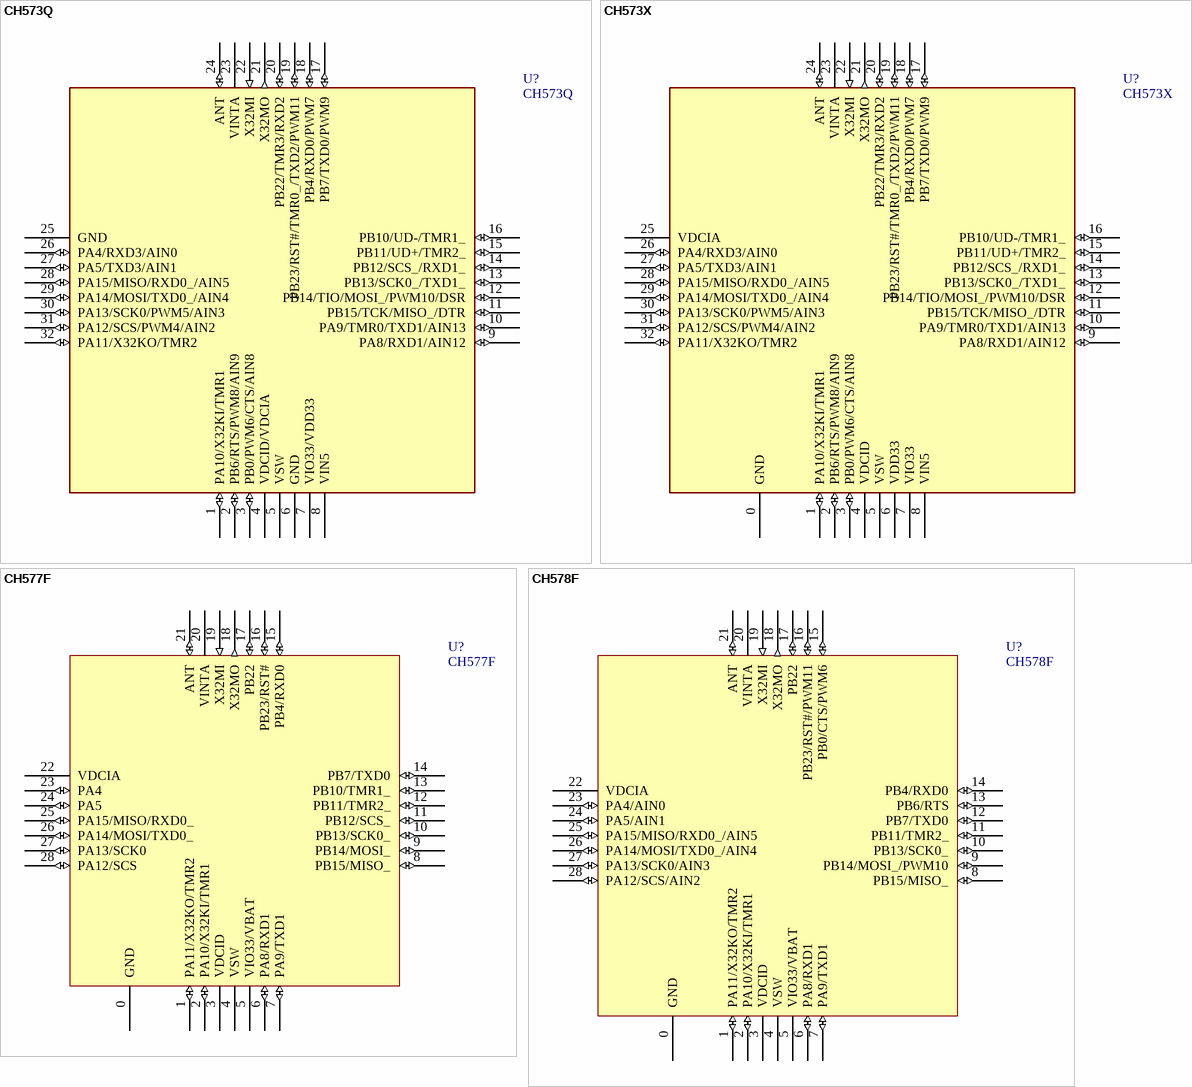
[diagram p34: symbols CH573Q to CH578F]

## CH573Q
designator U?
RISC-V MCU with BLE/USB/ADC/SPI/4*UART
footprint LQFP32 (Footprint not found)
pins: 1 PA10/X32KI/TMR1 (io), 2 PB6/RTS/PWM8/AIN9 (io), 3 PB0/PWM6/CTS/AIN8 (io), 4 VDCID/VDCIA (power), 5 VSW (power), 6 GND (power), 7 VIO33/VDD33 (power), 8 VIN5 (power), 9 PA8/RXD1/AIN12 (io), 10 PA9/TMR0/TXD1/AIN13 (io), 11 PB15/TCK/MISO_/DTR (io), 12 PB14/TIO/MOSI_/PWM10/DSR (io), 13 PB13/SCK0_/TXD1_ (io), 14 PB12/SCS_/RXD1_ (io), 15 PB11/UD+/TMR2_ (io), 16 PB10/UD-/TMR1_ (io), 17 PB7/TXD0/PWM9 (io), 18 PB4/RXD0/PWM7 (io), 19 PB23/RST#/TMR0_/TXD2/PWM11 (io), 20 PB22/TMR3/RXD2 (io), 21 X32MO (out), 22 X32MI (in), 23 VINTA (power), 24 ANT (io), 25 GND (power), 26 PA4/RXD3/AIN0 (io), 27 PA5/TXD3/AIN1 (io), 28 PA15/MISO/RXD0_/AIN5 (io), 29 PA14/MOSI/TXD0_/AIN4 (io), 30 PA13/SCK0/PWM5/AIN3 (io), 31 PA12/SCS/PWM4/AIN2 (io), 32 PA11/X32KO/TMR2 (io)
2 alternate drawings of the same symbol

## CH573X
designator U?
RISC-V MCU with BLE/USB/ADC/SPI/4*UART
footprint QFN32_4X4
pins: 0 GND (power), 1 PA10/X32KI/TMR1 (io), 2 PB6/RTS/PWM8/AIN9 (io), 3 PB0/PWM6/CTS/AIN8 (io), 4 VDCID (power), 5 VSW (power), 6 VDD33 (power), 7 VIO33 (power), 8 VIN5 (power), 9 PA8/RXD1/AIN12 (io), 10 PA9/TMR0/TXD1/AIN13 (io), 11 PB15/TCK/MISO_/DTR (io), 12 PB14/TIO/MOSI_/PWM10/DSR (io), 13 PB13/SCK0_/TXD1_ (io), 14 PB12/SCS_/RXD1_ (io), 15 PB11/UD+/TMR2_ (io), 16 PB10/UD-/TMR1_ (io), 17 PB7/TXD0/PWM9 (io), 18 PB4/RXD0/PWM7 (io), 19 PB23/RST#/TMR0_/TXD2/PWM11 (io), 20 PB22/TMR3/RXD2 (io), 21 X32MO (out), 22 X32MI (in), 23 VINTA (power), 24 ANT (io), 25 VDCIA (power), 26 PA4/RXD3/AIN0 (io), 27 PA5/TXD3/AIN1 (io), 28 PA15/MISO/RXD0_/AIN5 (io), 29 PA14/MOSI/TXD0_/AIN4 (io), 30 PA13/SCK0/PWM5/AIN3 (io), 31 PA12/SCS/PWM4/AIN2 (io), 32 PA11/X32KO/TMR2 (io)
2 alternate drawings of the same symbol

## CH577F
designator U?
ARM M0 MCU with Bluetooth-LowEnergy+doubleUART+SPI
footprint QFN28_4X4
pins: 0 GND (power), 1 PA11/X32KO/TMR2 (io), 2 PA10/X32KI/TMR1 (io), 3 VDCID (power), 4 VSW (power), 5 VIO33/VBAT (power), 6 PA8/RXD1 (io), 7 PA9/TXD1 (io), 8 PB15/MISO_ (io), 9 PB14/MOSI_ (io), 10 PB13/SCK0_ (io), 11 PB12/SCS_ (io), 12 PB11/TMR2_ (io), 13 PB10/TMR1_ (io), 14 PB7/TXD0 (io), 15 PB4/RXD0 (io), 16 PB23/RST# (io), 17 PB22 (io), 18 X32MO (out), 19 X32MI (in), 20 VINTA (power), 21 ANT (io), 22 VDCIA (power), 23 PA4 (io), 24 PA5 (io), 25 PA15/MISO/RXD0_ (io), 26 PA14/MOSI/TXD0_ (io), 27 PA13/SCK0 (io), 28 PA12/SCS (io)

## CH578F
designator U?
ARM M0 MCU with Bluetooth-LowEnergy+doubleUART+SPI+ADC
footprint QFN28_4X4
pins: 0 GND (power), 1 PA11/X32KO/TMR2 (io), 2 PA10/X32KI/TMR1 (io), 3 VDCID (power), 4 VSW (power), 5 VIO33/VBAT (power), 6 PA8/RXD1 (io), 7 PA9/TXD1 (io), 8 PB15/MISO_ (io), 9 PB14/MOSI_/PWM10 (io), 10 PB13/SCK0_ (io), 11 PB11/TMR2_ (io), 12 PB7/TXD0 (io), 13 PB6/RTS (io), 14 PB4/RXD0 (io), 15 PB0/CTS/PWM6 (io), 16 PB23/RST#/PWM11 (io), 17 PB22 (io), 18 X32MO (out), 19 X32MI (in), 20 VINTA (power), 21 ANT (io), 22 VDCIA (power), 23 PA4/AIN0 (io), 24 PA5/AIN1 (io), 25 PA15/MISO/RXD0_/AIN5 (io), 26 PA14/MOSI/TXD0_/AIN4 (io), 27 PA13/SCK0/AIN3 (io), 28 PA12/SCS/AIN2 (io)

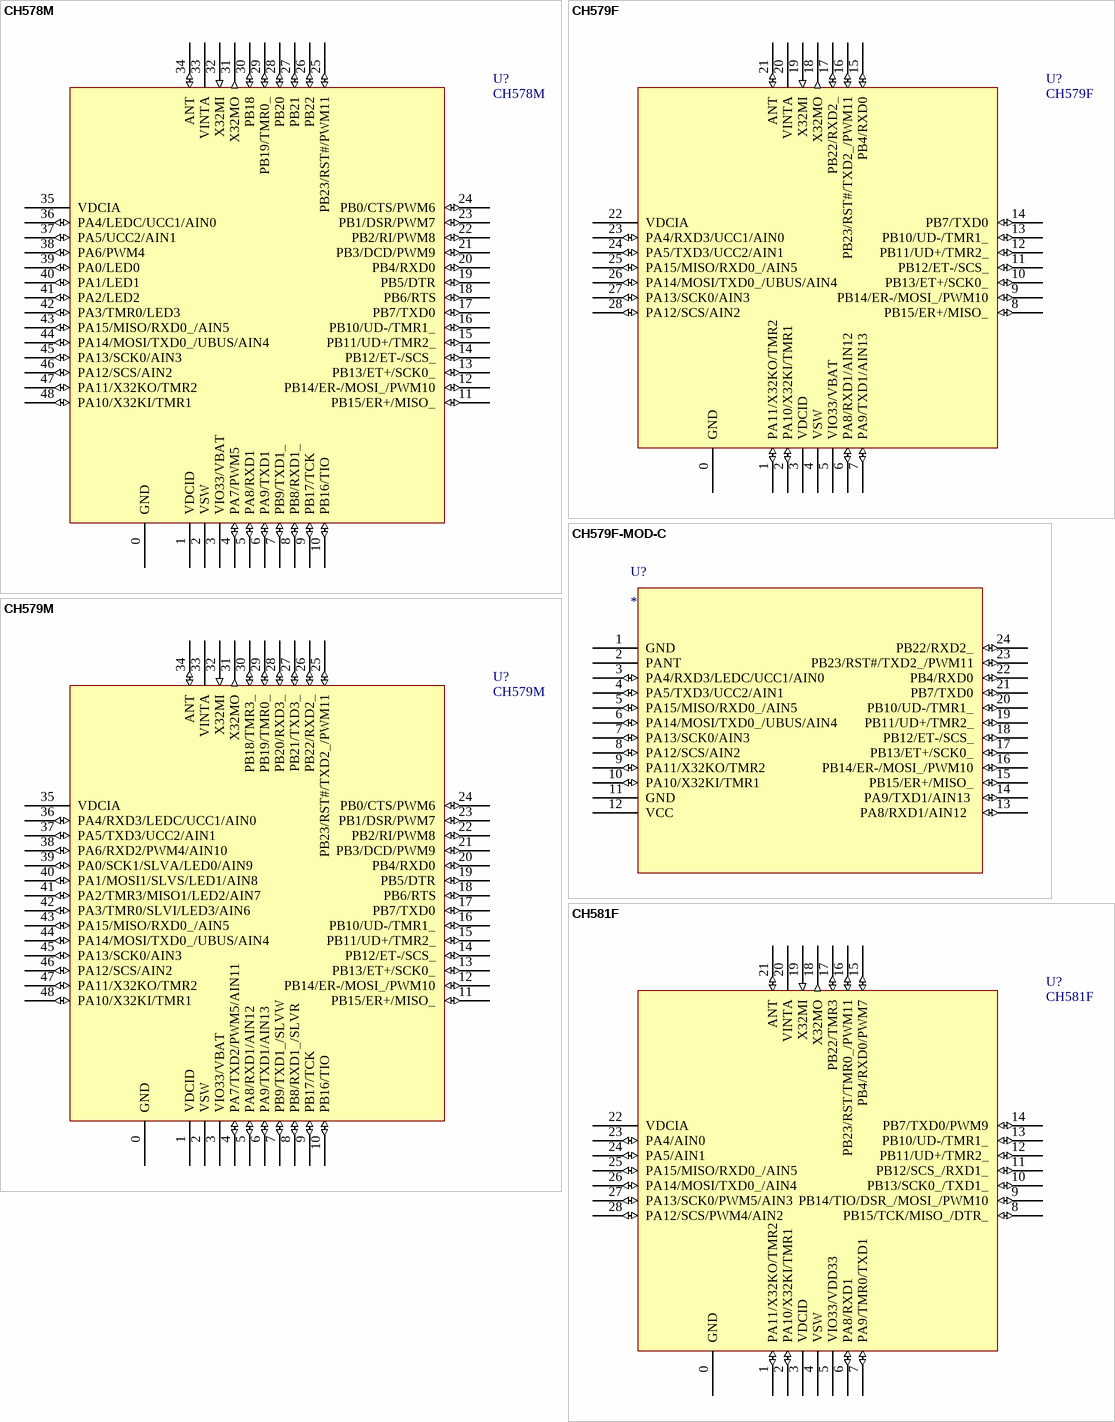
[diagram p35: symbols CH578M to CH581F]

## CH578M
designator U?
ARM M0 MCU with Bluetooth-LowEnergy+Ethernet+USB+segment-LCD
footprint QFN48_5X5
pins: 0 GND (power), 1 VDCID (power), 2 VSW (power), 3 VIO33/VBAT (power), 4 PA7/PWM5 (io), 5 PA8/RXD1 (io), 6 PA9/TXD1 (io), 7 PB9/TXD1_ (io), 8 PB8/RXD1_ (io), 9 PB17/TCK (io), 10 PB16/TIO (io), 11 PB15/ER+/MISO_ (io), 12 PB14/ER-/MOSI_/PWM10 (io), 13 PB13/ET+/SCK0_ (io), 14 PB12/ET-/SCS_ (io), 15 PB11/UD+/TMR2_ (io), 16 PB10/UD-/TMR1_ (io), 17 PB7/TXD0 (io), 18 PB6/RTS (io), 19 PB5/DTR (io), 20 PB4/RXD0 (io), 21 PB3/DCD/PWM9 (io), 22 PB2/RI/PWM8 (io), 23 PB1/DSR/PWM7 (io), 24 PB0/CTS/PWM6 (io), 25 PB23/RST#/PWM11 (io), 26 PB22 (io), 27 PB21 (io), 28 PB20 (io), 29 PB19/TMR0_ (io), 30 PB18 (io), 31 X32MO (out), 32 X32MI (in), 33 VINTA (power), 34 ANT (io), 35 VDCIA (power), 36 PA4/LEDC/UCC1/AIN0 (io), 37 PA5/UCC2/AIN1 (io), 38 PA6/PWM4 (io), 39 PA0/LED0 (io), 40 PA1/LED1 (io), 41 PA2/LED2 (io), 42 PA3/TMR0/LED3 (io), 43 PA15/MISO/RXD0_/AIN5 (io), 44 PA14/MOSI/TXD0_/UBUS/AIN4 (io), 45 PA13/SCK0/AIN3 (io), 46 PA12/SCS/AIN2 (io), 47 PA11/X32KO/TMR2 (io), 48 PA10/X32KI/TMR1 (io)

## CH579F
designator U?
ARM M0 MCU with Bluetooth-LowEnergy+Ethernet+USB Host/Device
footprint QFN28_4X4
pins: 0 GND (power), 1 PA11/X32KO/TMR2 (io), 2 PA10/X32KI/TMR1 (io), 3 VDCID (power), 4 VSW (power), 5 VIO33/VBAT (power), 6 PA8/RXD1/AIN12 (io), 7 PA9/TXD1/AIN13 (io), 8 PB15/ER+/MISO_ (io), 9 PB14/ER-/MOSI_/PWM10 (io), 10 PB13/ET+/SCK0_ (io), 11 PB12/ET-/SCS_ (io), 12 PB11/UD+/TMR2_ (io), 13 PB10/UD-/TMR1_ (io), 14 PB7/TXD0 (io), 15 PB4/RXD0 (io), 16 PB23/RST#/TXD2_/PWM11 (io), 17 PB22/RXD2_ (io), 18 X32MO (out), 19 X32MI (in), 20 VINTA (power), 21 ANT (io), 22 VDCIA (power), 23 PA4/RXD3/UCC1/AIN0 (io), 24 PA5/TXD3/UCC2/AIN1 (io), 25 PA15/MISO/RXD0_/AIN5 (io), 26 PA14/MOSI/TXD0_/UBUS/AIN4 (io), 27 PA13/SCK0/AIN3 (io), 28 PA12/SCS/AIN2 (io)

## CH579F-MOD-C
designator U?
CH579F module, ARM M0 MCU with BLE+Ethernet+USB Host/Device
footprint BLEMOD-R2-1v0-24PIN
pins: 1 GND (power), 2 PANT, 3 PA4/RXD3/LEDC/UCC1/AIN0  (io), 4 PA5/TXD3/UCC2/AIN1   (io), 5 PA15/MISO/RXD0_/AIN5   (io), 6 PA14/MOSI/TXD0_/UBUS/AIN4 (io), 7 PA13/SCK0/AIN3   (io), 8 PA12/SCS/AIN2   (io), 9 PA11/X32KO/TMR2   (io), 10 PA10/X32KI/TMR1   (io), 11 GND (power), 12 VCC (power), 13 PA8/RXD1/AIN12   (io), 14 PA9/TXD1/AIN13  (io), 15 PB15/ER+/MISO_ (io), 16 PB14/ER-/MOSI_/PWM10 (io), 17 PB13/ET+/SCK0_ (io), 18 PB12/ET-/SCS_ (io), 19 PB11/UD+/TMR2_ (io), 20 PB10/UD-/TMR1_ (io), 21 PB7/TXD0 (io), 22 PB4/RXD0 (io), 23 PB23/RST#/TXD2_/PWM11 (io), 24 PB22/RXD2_ (io)

## CH579M
designator U?
ARM M0 MCU with Bluetooth-LowEnergy+Ethernet+USB+segment-LCD
footprint QFN48_5X5
pins: 0 GND (power), 1 VDCID (power), 2 VSW (power), 3 VIO33/VBAT (power), 4 PA7/TXD2/PWM5/AIN11 (io), 5 PA8/RXD1/AIN12 (io), 6 PA9/TXD1/AIN13 (io), 7 PB9/TXD1_/SLVW (io), 8 PB8/RXD1_/SLVR (io), 9 PB17/TCK (io), 10 PB16/TIO (io), 11 PB15/ER+/MISO_ (io), 12 PB14/ER-/MOSI_/PWM10 (io), 13 PB13/ET+/SCK0_ (io), 14 PB12/ET-/SCS_ (io), 15 PB11/UD+/TMR2_ (io), 16 PB10/UD-/TMR1_ (io), 17 PB7/TXD0 (io), 18 PB6/RTS (io), 19 PB5/DTR (io), 20 PB4/RXD0 (io), 21 PB3/DCD/PWM9 (io), 22 PB2/RI/PWM8 (io), 23 PB1/DSR/PWM7 (io), 24 PB0/CTS/PWM6 (io), 25 PB23/RST#/TXD2_/PWM11 (io), 26 PB22/RXD2_ (io), 27 PB21/TXD3_ (io), 28 PB20/RXD3_ (io), 29 PB19/TMR0_ (io), 30 PB18/TMR3_ (io), 31 X32MO (out), 32 X32MI (in), 33 VINTA (power), 34 ANT (io), 35 VDCIA (power), 36 PA4/RXD3/LEDC/UCC1/AIN0 (io), 37 PA5/TXD3/UCC2/AIN1 (io), 38 PA6/RXD2/PWM4/AIN10 (io), 39 PA0/SCK1/SLVA/LED0/AIN9 (io), 40 PA1/MOSI1/SLVS/LED1/AIN8 (io), 41 PA2/TMR3/MISO1/LED2/AIN7 (io), 42 PA3/TMR0/SLVI/LED3/AIN6 (io), 43 PA15/MISO/RXD0_/AIN5 (io), 44 PA14/MOSI/TXD0_/UBUS/AIN4 (io), 45 PA13/SCK0/AIN3 (io), 46 PA12/SCS/AIN2 (io), 47 PA11/X32KO/TMR2 (io), 48 PA10/X32KI/TMR1 (io)